# Altium integrated library ST Memory EEPROM Flash.IntLib: 1183 symbols (part 8 of 23)
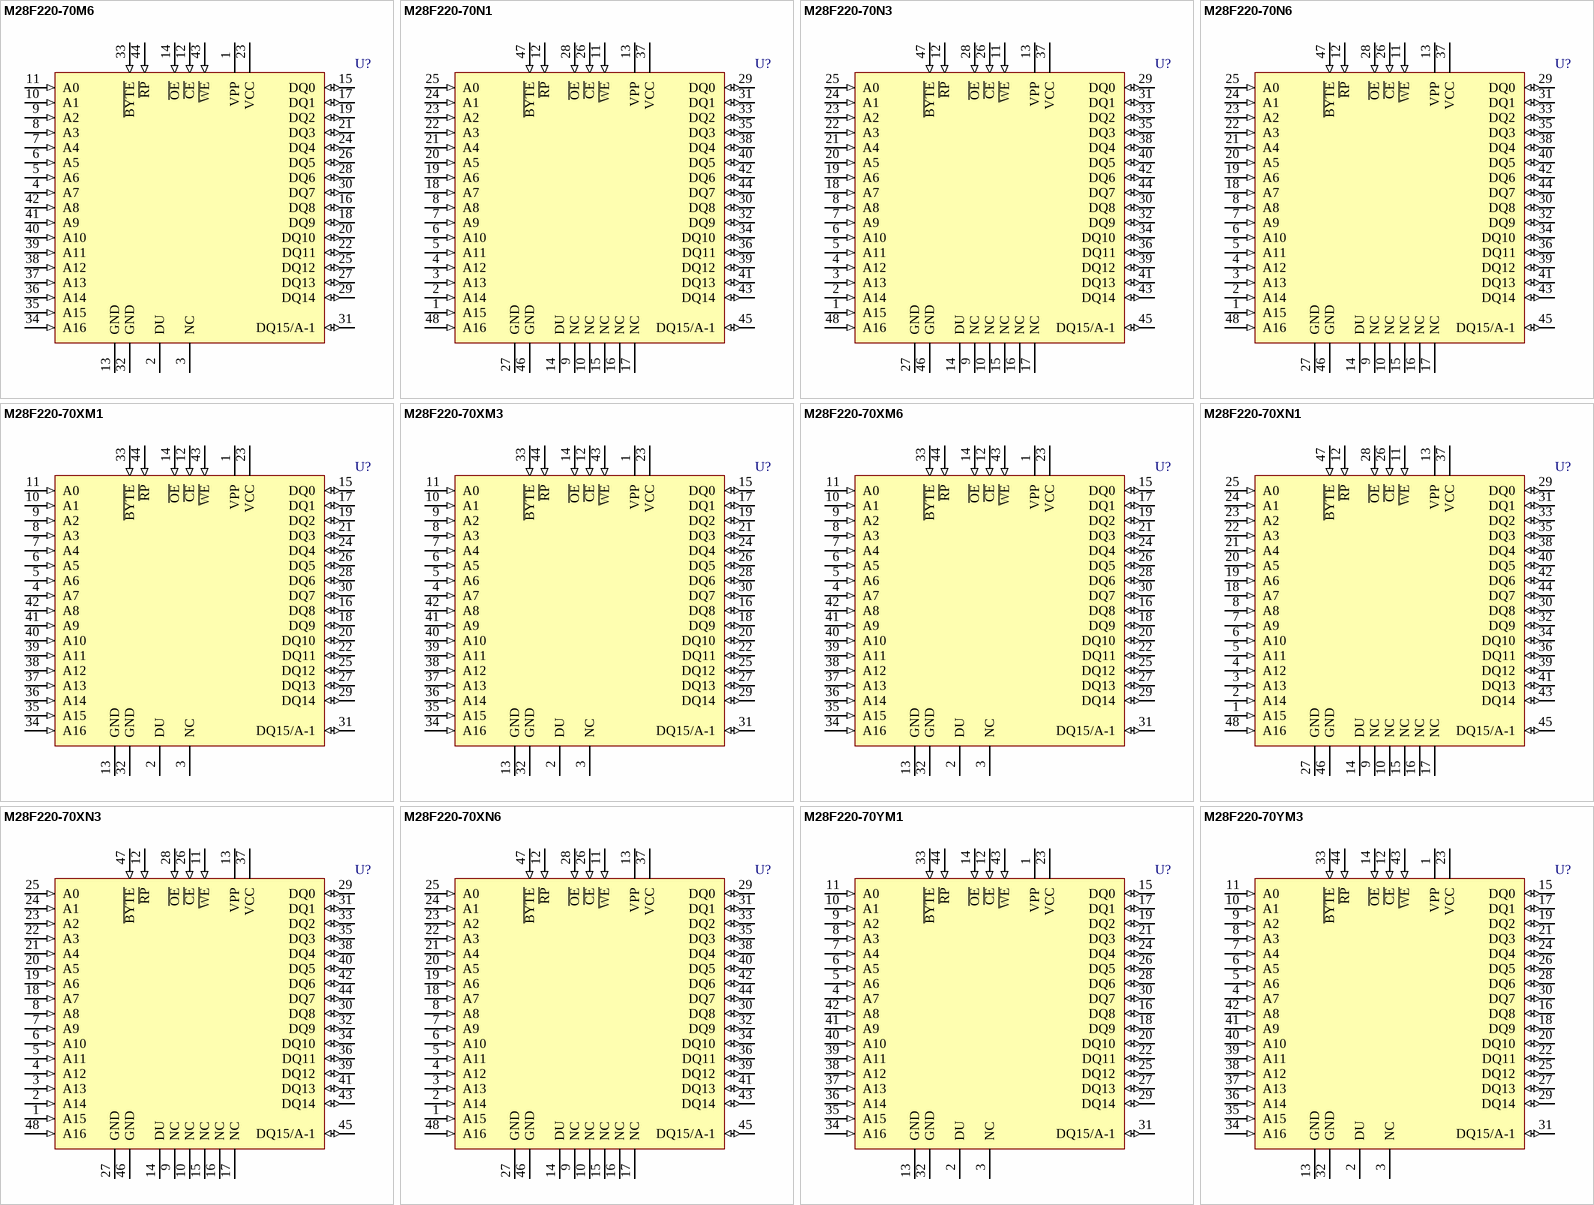
[diagram p88: symbols M28F220-70M6 to M28F220-70YM3]

## M28F220-70XN1
designator U?
2 Mbit (x8 or x16, Block Erase) Flash Memory; Note: Do Not Use pin number 14 (DU).; Published: 24-Aug-2001; LatestRevisionDate: 17-Jul-2002; LatestRevisionNote: Re-released for DXP Platform.; DatasheetDocument: Feb-1996; PackageDocument: Jul-1998; PackageReference: TSOP48; Publisher: Altium Limited; Code_JEDEC: MO-142-DD
footprint TSOP48 (Shrink Small Outline, Plastic, Thin; 48 Leads; Body Width 18.4 mm; Pitch 0.5 mm)
pins: 1 A15 (in), 2 A14 (in), 3 A13 (in), 4 A12 (in), 5 A11 (in), 6 A10 (in), 7 A9 (in), 8 A8 (in), 9 NC, 10 NC, 11 ~{WE} (in), 12 ~{RP} (in), 13 VPP (power), 14 DU, 15 NC, 16 NC, 17 NC, 18 A7 (in), 19 A6 (in), 20 A5 (in), 21 A4 (in), 22 A3 (in), 23 A2 (in), 24 A1 (in), 25 A0 (in), 26 ~{CE} (in), 27 GND (power), 28 ~{OE} (in), 29 DQ0 (io), 30 DQ8 (io), 31 DQ1 (io), 32 DQ9 (io), 33 DQ2 (io), 34 DQ10 (io), 35 DQ3 (io), 36 DQ11 (io), 37 VCC (power), 38 DQ4 (io), 39 DQ12 (io), 40 DQ5 (io), 41 DQ13 (io), 42 DQ6 (io), 43 DQ14 (io), 44 DQ7 (io), 45 DQ15/A-1 (io), 46 GND (power), 47 ~{BYTE} (in), 48 A16 (in)

## M28F220-70XN3
designator U?
2 Mbit (x8 or x16, Block Erase) Flash Memory; Note: Do Not Use pin number 14 (DU).; Published: 24-Aug-2001; LatestRevisionDate: 17-Jul-2002; LatestRevisionNote: Re-released for DXP Platform.; DatasheetDocument: Feb-1996; PackageDocument: Jul-1998; PackageReference: TSOP48; Publisher: Altium Limited; Code_JEDEC: MO-142-DD
footprint TSOP48 (Shrink Small Outline, Plastic, Thin; 48 Leads; Body Width 18.4 mm; Pitch 0.5 mm)
pins: 1 A15 (in), 2 A14 (in), 3 A13 (in), 4 A12 (in), 5 A11 (in), 6 A10 (in), 7 A9 (in), 8 A8 (in), 9 NC, 10 NC, 11 ~{WE} (in), 12 ~{RP} (in), 13 VPP (power), 14 DU, 15 NC, 16 NC, 17 NC, 18 A7 (in), 19 A6 (in), 20 A5 (in), 21 A4 (in), 22 A3 (in), 23 A2 (in), 24 A1 (in), 25 A0 (in), 26 ~{CE} (in), 27 GND (power), 28 ~{OE} (in), 29 DQ0 (io), 30 DQ8 (io), 31 DQ1 (io), 32 DQ9 (io), 33 DQ2 (io), 34 DQ10 (io), 35 DQ3 (io), 36 DQ11 (io), 37 VCC (power), 38 DQ4 (io), 39 DQ12 (io), 40 DQ5 (io), 41 DQ13 (io), 42 DQ6 (io), 43 DQ14 (io), 44 DQ7 (io), 45 DQ15/A-1 (io), 46 GND (power), 47 ~{BYTE} (in), 48 A16 (in)

## M28F220-70XN6
designator U?
2 Mbit (x8 or x16, Block Erase) Flash Memory; Note: Do Not Use pin number 14 (DU).; Published: 24-Aug-2001; LatestRevisionDate: 17-Jul-2002; LatestRevisionNote: Re-released for DXP Platform.; DatasheetDocument: Feb-1996; PackageDocument: Jul-1998; PackageReference: TSOP48; Publisher: Altium Limited; Code_JEDEC: MO-142-DD
footprint TSOP48 (Shrink Small Outline, Plastic, Thin; 48 Leads; Body Width 18.4 mm; Pitch 0.5 mm)
pins: 1 A15 (in), 2 A14 (in), 3 A13 (in), 4 A12 (in), 5 A11 (in), 6 A10 (in), 7 A9 (in), 8 A8 (in), 9 NC, 10 NC, 11 ~{WE} (in), 12 ~{RP} (in), 13 VPP (power), 14 DU, 15 NC, 16 NC, 17 NC, 18 A7 (in), 19 A6 (in), 20 A5 (in), 21 A4 (in), 22 A3 (in), 23 A2 (in), 24 A1 (in), 25 A0 (in), 26 ~{CE} (in), 27 GND (power), 28 ~{OE} (in), 29 DQ0 (io), 30 DQ8 (io), 31 DQ1 (io), 32 DQ9 (io), 33 DQ2 (io), 34 DQ10 (io), 35 DQ3 (io), 36 DQ11 (io), 37 VCC (power), 38 DQ4 (io), 39 DQ12 (io), 40 DQ5 (io), 41 DQ13 (io), 42 DQ6 (io), 43 DQ14 (io), 44 DQ7 (io), 45 DQ15/A-1 (io), 46 GND (power), 47 ~{BYTE} (in), 48 A16 (in)

## M28F220-70YM1
designator U?
2 Mbit (x8 or x16, Block Erase) Flash Memory; Note: Do Not Use pin number 2 (DU).; Published: 24-Aug-2001; LatestRevisionDate: 17-Jul-2002; LatestRevisionNote: Re-released for DXP Platform.; DatasheetDocument: Feb-1996; PackageReference: SO44; Publisher: Altium Limited
footprint SO44 (Small Outline, Plastic; 44 Leads; Body Width 13.3 mm; Pitch 1.27 mm)
pins: 1 VPP (power), 2 DU, 3 NC, 4 A7 (in), 5 A6 (in), 6 A5 (in), 7 A4 (in), 8 A3 (in), 9 A2 (in), 10 A1 (in), 11 A0 (in), 12 ~{CE} (in), 13 GND (power), 14 ~{OE} (in), 15 DQ0 (io), 16 DQ8 (io), 17 DQ1 (io), 18 DQ9 (io), 19 DQ2 (io), 20 DQ10 (io), 21 DQ3 (io), 22 DQ11 (io), 23 VCC (power), 24 DQ4 (io), 25 DQ12 (io), 26 DQ5 (io), 27 DQ13 (io), 28 DQ6 (io), 29 DQ14 (io), 30 DQ7 (io), 31 DQ15/A-1 (io), 32 GND (power), 33 ~{BYTE} (in), 34 A16 (in), 35 A15 (in), 36 A14 (in), 37 A13 (in), 38 A12 (in), 39 A11 (in), 40 A10 (in), 41 A9 (in), 42 A8 (in), 43 ~{WE} (in), 44 ~{RP} (in)

## M28F220-70YM3
designator U?
2 Mbit (x8 or x16, Block Erase) Flash Memory; Note: Do Not Use pin number 2 (DU).; Published: 24-Aug-2001; LatestRevisionDate: 17-Jul-2002; LatestRevisionNote: Re-released for DXP Platform.; DatasheetDocument: Feb-1996; PackageReference: SO44; Publisher: Altium Limited
footprint SO44 (Small Outline, Plastic; 44 Leads; Body Width 13.3 mm; Pitch 1.27 mm)
pins: 1 VPP (power), 2 DU, 3 NC, 4 A7 (in), 5 A6 (in), 6 A5 (in), 7 A4 (in), 8 A3 (in), 9 A2 (in), 10 A1 (in), 11 A0 (in), 12 ~{CE} (in), 13 GND (power), 14 ~{OE} (in), 15 DQ0 (io), 16 DQ8 (io), 17 DQ1 (io), 18 DQ9 (io), 19 DQ2 (io), 20 DQ10 (io), 21 DQ3 (io), 22 DQ11 (io), 23 VCC (power), 24 DQ4 (io), 25 DQ12 (io), 26 DQ5 (io), 27 DQ13 (io), 28 DQ6 (io), 29 DQ14 (io), 30 DQ7 (io), 31 DQ15/A-1 (io), 32 GND (power), 33 ~{BYTE} (in), 34 A16 (in), 35 A15 (in), 36 A14 (in), 37 A13 (in), 38 A12 (in), 39 A11 (in), 40 A10 (in), 41 A9 (in), 42 A8 (in), 43 ~{WE} (in), 44 ~{RP} (in)

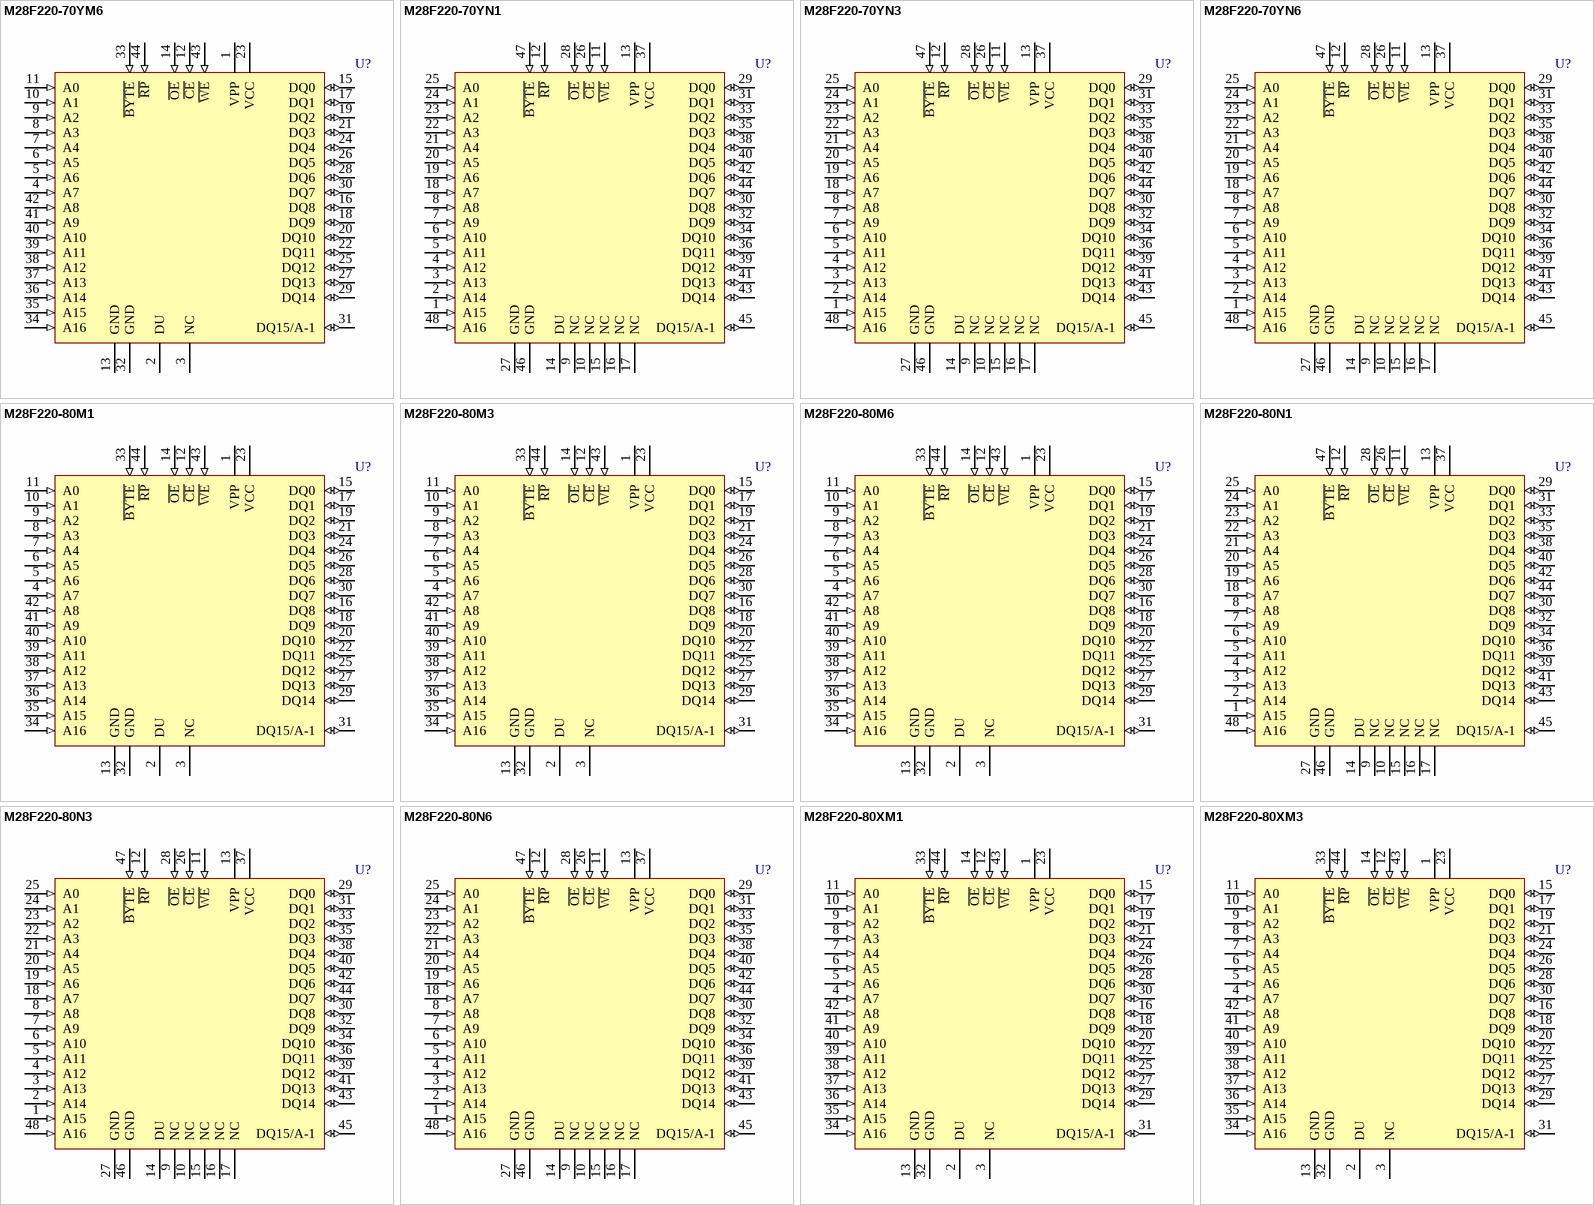
[diagram p23: symbols M28F220-70YM6 to M28F220-80XM3]

## M28F220-70YM6
designator U?
2 Mbit (x8 or x16, Block Erase) Flash Memory; Note: Do Not Use pin number 2 (DU).; Published: 24-Aug-2001; LatestRevisionDate: 17-Jul-2002; LatestRevisionNote: Re-released for DXP Platform.; DatasheetDocument: Feb-1996; PackageReference: SO44; Publisher: Altium Limited
footprint SO44 (Small Outline, Plastic; 44 Leads; Body Width 13.3 mm; Pitch 1.27 mm)
pins: 1 VPP (power), 2 DU, 3 NC, 4 A7 (in), 5 A6 (in), 6 A5 (in), 7 A4 (in), 8 A3 (in), 9 A2 (in), 10 A1 (in), 11 A0 (in), 12 ~{CE} (in), 13 GND (power), 14 ~{OE} (in), 15 DQ0 (io), 16 DQ8 (io), 17 DQ1 (io), 18 DQ9 (io), 19 DQ2 (io), 20 DQ10 (io), 21 DQ3 (io), 22 DQ11 (io), 23 VCC (power), 24 DQ4 (io), 25 DQ12 (io), 26 DQ5 (io), 27 DQ13 (io), 28 DQ6 (io), 29 DQ14 (io), 30 DQ7 (io), 31 DQ15/A-1 (io), 32 GND (power), 33 ~{BYTE} (in), 34 A16 (in), 35 A15 (in), 36 A14 (in), 37 A13 (in), 38 A12 (in), 39 A11 (in), 40 A10 (in), 41 A9 (in), 42 A8 (in), 43 ~{WE} (in), 44 ~{RP} (in)

## M28F220-70YN1
designator U?
2 Mbit (x8 or x16, Block Erase) Flash Memory; Note: Do Not Use pin number 14 (DU).; Published: 24-Aug-2001; LatestRevisionDate: 17-Jul-2002; LatestRevisionNote: Re-released for DXP Platform.; DatasheetDocument: Feb-1996; PackageDocument: Jul-1998; PackageReference: TSOP48; Publisher: Altium Limited; Code_JEDEC: MO-142-DD
footprint TSOP48 (Shrink Small Outline, Plastic, Thin; 48 Leads; Body Width 18.4 mm; Pitch 0.5 mm)
pins: 1 A15 (in), 2 A14 (in), 3 A13 (in), 4 A12 (in), 5 A11 (in), 6 A10 (in), 7 A9 (in), 8 A8 (in), 9 NC, 10 NC, 11 ~{WE} (in), 12 ~{RP} (in), 13 VPP (power), 14 DU, 15 NC, 16 NC, 17 NC, 18 A7 (in), 19 A6 (in), 20 A5 (in), 21 A4 (in), 22 A3 (in), 23 A2 (in), 24 A1 (in), 25 A0 (in), 26 ~{CE} (in), 27 GND (power), 28 ~{OE} (in), 29 DQ0 (io), 30 DQ8 (io), 31 DQ1 (io), 32 DQ9 (io), 33 DQ2 (io), 34 DQ10 (io), 35 DQ3 (io), 36 DQ11 (io), 37 VCC (power), 38 DQ4 (io), 39 DQ12 (io), 40 DQ5 (io), 41 DQ13 (io), 42 DQ6 (io), 43 DQ14 (io), 44 DQ7 (io), 45 DQ15/A-1 (io), 46 GND (power), 47 ~{BYTE} (in), 48 A16 (in)

## M28F220-70YN3
designator U?
2 Mbit (x8 or x16, Block Erase) Flash Memory; Note: Do Not Use pin number 14 (DU).; Published: 24-Aug-2001; LatestRevisionDate: 17-Jul-2002; LatestRevisionNote: Re-released for DXP Platform.; DatasheetDocument: Feb-1996; PackageDocument: Jul-1998; PackageReference: TSOP48; Publisher: Altium Limited; Code_JEDEC: MO-142-DD
footprint TSOP48 (Shrink Small Outline, Plastic, Thin; 48 Leads; Body Width 18.4 mm; Pitch 0.5 mm)
pins: 1 A15 (in), 2 A14 (in), 3 A13 (in), 4 A12 (in), 5 A11 (in), 6 A10 (in), 7 A9 (in), 8 A8 (in), 9 NC, 10 NC, 11 ~{WE} (in), 12 ~{RP} (in), 13 VPP (power), 14 DU, 15 NC, 16 NC, 17 NC, 18 A7 (in), 19 A6 (in), 20 A5 (in), 21 A4 (in), 22 A3 (in), 23 A2 (in), 24 A1 (in), 25 A0 (in), 26 ~{CE} (in), 27 GND (power), 28 ~{OE} (in), 29 DQ0 (io), 30 DQ8 (io), 31 DQ1 (io), 32 DQ9 (io), 33 DQ2 (io), 34 DQ10 (io), 35 DQ3 (io), 36 DQ11 (io), 37 VCC (power), 38 DQ4 (io), 39 DQ12 (io), 40 DQ5 (io), 41 DQ13 (io), 42 DQ6 (io), 43 DQ14 (io), 44 DQ7 (io), 45 DQ15/A-1 (io), 46 GND (power), 47 ~{BYTE} (in), 48 A16 (in)

## M28F220-70YN6
designator U?
2 Mbit (x8 or x16, Block Erase) Flash Memory; Note: Do Not Use pin number 14 (DU).; Published: 24-Aug-2001; LatestRevisionDate: 17-Jul-2002; LatestRevisionNote: Re-released for DXP Platform.; DatasheetDocument: Feb-1996; PackageDocument: Jul-1998; PackageReference: TSOP48; Publisher: Altium Limited; Code_JEDEC: MO-142-DD
footprint TSOP48 (Shrink Small Outline, Plastic, Thin; 48 Leads; Body Width 18.4 mm; Pitch 0.5 mm)
pins: 1 A15 (in), 2 A14 (in), 3 A13 (in), 4 A12 (in), 5 A11 (in), 6 A10 (in), 7 A9 (in), 8 A8 (in), 9 NC, 10 NC, 11 ~{WE} (in), 12 ~{RP} (in), 13 VPP (power), 14 DU, 15 NC, 16 NC, 17 NC, 18 A7 (in), 19 A6 (in), 20 A5 (in), 21 A4 (in), 22 A3 (in), 23 A2 (in), 24 A1 (in), 25 A0 (in), 26 ~{CE} (in), 27 GND (power), 28 ~{OE} (in), 29 DQ0 (io), 30 DQ8 (io), 31 DQ1 (io), 32 DQ9 (io), 33 DQ2 (io), 34 DQ10 (io), 35 DQ3 (io), 36 DQ11 (io), 37 VCC (power), 38 DQ4 (io), 39 DQ12 (io), 40 DQ5 (io), 41 DQ13 (io), 42 DQ6 (io), 43 DQ14 (io), 44 DQ7 (io), 45 DQ15/A-1 (io), 46 GND (power), 47 ~{BYTE} (in), 48 A16 (in)

## M28F220-80M1
designator U?
2 Mbit (x8 or x16, Block Erase) Flash Memory; Note: Do Not Use pin number 2 (DU).; Published: 24-Aug-2001; LatestRevisionDate: 17-Jul-2002; LatestRevisionNote: Re-released for DXP Platform.; DatasheetDocument: Feb-1996; PackageReference: SO44; Publisher: Altium Limited
footprint SO44 (Small Outline, Plastic; 44 Leads; Body Width 13.3 mm; Pitch 1.27 mm)
pins: 1 VPP (power), 2 DU, 3 NC, 4 A7 (in), 5 A6 (in), 6 A5 (in), 7 A4 (in), 8 A3 (in), 9 A2 (in), 10 A1 (in), 11 A0 (in), 12 ~{CE} (in), 13 GND (power), 14 ~{OE} (in), 15 DQ0 (io), 16 DQ8 (io), 17 DQ1 (io), 18 DQ9 (io), 19 DQ2 (io), 20 DQ10 (io), 21 DQ3 (io), 22 DQ11 (io), 23 VCC (power), 24 DQ4 (io), 25 DQ12 (io), 26 DQ5 (io), 27 DQ13 (io), 28 DQ6 (io), 29 DQ14 (io), 30 DQ7 (io), 31 DQ15/A-1 (io), 32 GND (power), 33 ~{BYTE} (in), 34 A16 (in), 35 A15 (in), 36 A14 (in), 37 A13 (in), 38 A12 (in), 39 A11 (in), 40 A10 (in), 41 A9 (in), 42 A8 (in), 43 ~{WE} (in), 44 ~{RP} (in)

## M28F220-80M3
designator U?
2 Mbit (x8 or x16, Block Erase) Flash Memory; Note: Do Not Use pin number 2 (DU).; Published: 24-Aug-2001; LatestRevisionDate: 17-Jul-2002; LatestRevisionNote: Re-released for DXP Platform.; DatasheetDocument: Feb-1996; PackageReference: SO44; Publisher: Altium Limited
footprint SO44 (Small Outline, Plastic; 44 Leads; Body Width 13.3 mm; Pitch 1.27 mm)
pins: 1 VPP (power), 2 DU, 3 NC, 4 A7 (in), 5 A6 (in), 6 A5 (in), 7 A4 (in), 8 A3 (in), 9 A2 (in), 10 A1 (in), 11 A0 (in), 12 ~{CE} (in), 13 GND (power), 14 ~{OE} (in), 15 DQ0 (io), 16 DQ8 (io), 17 DQ1 (io), 18 DQ9 (io), 19 DQ2 (io), 20 DQ10 (io), 21 DQ3 (io), 22 DQ11 (io), 23 VCC (power), 24 DQ4 (io), 25 DQ12 (io), 26 DQ5 (io), 27 DQ13 (io), 28 DQ6 (io), 29 DQ14 (io), 30 DQ7 (io), 31 DQ15/A-1 (io), 32 GND (power), 33 ~{BYTE} (in), 34 A16 (in), 35 A15 (in), 36 A14 (in), 37 A13 (in), 38 A12 (in), 39 A11 (in), 40 A10 (in), 41 A9 (in), 42 A8 (in), 43 ~{WE} (in), 44 ~{RP} (in)

## M28F220-80M6
designator U?
2 Mbit (x8 or x16, Block Erase) Flash Memory; Note: Do Not Use pin number 2 (DU).; Published: 24-Aug-2001; LatestRevisionDate: 17-Jul-2002; LatestRevisionNote: Re-released for DXP Platform.; DatasheetDocument: Feb-1996; PackageReference: SO44; Publisher: Altium Limited
footprint SO44 (Small Outline, Plastic; 44 Leads; Body Width 13.3 mm; Pitch 1.27 mm)
pins: 1 VPP (power), 2 DU, 3 NC, 4 A7 (in), 5 A6 (in), 6 A5 (in), 7 A4 (in), 8 A3 (in), 9 A2 (in), 10 A1 (in), 11 A0 (in), 12 ~{CE} (in), 13 GND (power), 14 ~{OE} (in), 15 DQ0 (io), 16 DQ8 (io), 17 DQ1 (io), 18 DQ9 (io), 19 DQ2 (io), 20 DQ10 (io), 21 DQ3 (io), 22 DQ11 (io), 23 VCC (power), 24 DQ4 (io), 25 DQ12 (io), 26 DQ5 (io), 27 DQ13 (io), 28 DQ6 (io), 29 DQ14 (io), 30 DQ7 (io), 31 DQ15/A-1 (io), 32 GND (power), 33 ~{BYTE} (in), 34 A16 (in), 35 A15 (in), 36 A14 (in), 37 A13 (in), 38 A12 (in), 39 A11 (in), 40 A10 (in), 41 A9 (in), 42 A8 (in), 43 ~{WE} (in), 44 ~{RP} (in)

## M28F220-80N1
designator U?
2 Mbit (x8 or x16, Block Erase) Flash Memory; Note: Do Not Use pin number 14 (DU).; Published: 24-Aug-2001; LatestRevisionDate: 17-Jul-2002; LatestRevisionNote: Re-released for DXP Platform.; DatasheetDocument: Feb-1996; PackageDocument: Jul-1998; PackageReference: TSOP48; Publisher: Altium Limited; Code_JEDEC: MO-142-DD
footprint TSOP48 (Shrink Small Outline, Plastic, Thin; 48 Leads; Body Width 18.4 mm; Pitch 0.5 mm)
pins: 1 A15 (in), 2 A14 (in), 3 A13 (in), 4 A12 (in), 5 A11 (in), 6 A10 (in), 7 A9 (in), 8 A8 (in), 9 NC, 10 NC, 11 ~{WE} (in), 12 ~{RP} (in), 13 VPP (power), 14 DU, 15 NC, 16 NC, 17 NC, 18 A7 (in), 19 A6 (in), 20 A5 (in), 21 A4 (in), 22 A3 (in), 23 A2 (in), 24 A1 (in), 25 A0 (in), 26 ~{CE} (in), 27 GND (power), 28 ~{OE} (in), 29 DQ0 (io), 30 DQ8 (io), 31 DQ1 (io), 32 DQ9 (io), 33 DQ2 (io), 34 DQ10 (io), 35 DQ3 (io), 36 DQ11 (io), 37 VCC (power), 38 DQ4 (io), 39 DQ12 (io), 40 DQ5 (io), 41 DQ13 (io), 42 DQ6 (io), 43 DQ14 (io), 44 DQ7 (io), 45 DQ15/A-1 (io), 46 GND (power), 47 ~{BYTE} (in), 48 A16 (in)

## M28F220-80N3
designator U?
2 Mbit (x8 or x16, Block Erase) Flash Memory; Note: Do Not Use pin number 14 (DU).; Published: 24-Aug-2001; LatestRevisionDate: 17-Jul-2002; LatestRevisionNote: Re-released for DXP Platform.; DatasheetDocument: Feb-1996; PackageDocument: Jul-1998; PackageReference: TSOP48; Publisher: Altium Limited; Code_JEDEC: MO-142-DD
footprint TSOP48 (Shrink Small Outline, Plastic, Thin; 48 Leads; Body Width 18.4 mm; Pitch 0.5 mm)
pins: 1 A15 (in), 2 A14 (in), 3 A13 (in), 4 A12 (in), 5 A11 (in), 6 A10 (in), 7 A9 (in), 8 A8 (in), 9 NC, 10 NC, 11 ~{WE} (in), 12 ~{RP} (in), 13 VPP (power), 14 DU, 15 NC, 16 NC, 17 NC, 18 A7 (in), 19 A6 (in), 20 A5 (in), 21 A4 (in), 22 A3 (in), 23 A2 (in), 24 A1 (in), 25 A0 (in), 26 ~{CE} (in), 27 GND (power), 28 ~{OE} (in), 29 DQ0 (io), 30 DQ8 (io), 31 DQ1 (io), 32 DQ9 (io), 33 DQ2 (io), 34 DQ10 (io), 35 DQ3 (io), 36 DQ11 (io), 37 VCC (power), 38 DQ4 (io), 39 DQ12 (io), 40 DQ5 (io), 41 DQ13 (io), 42 DQ6 (io), 43 DQ14 (io), 44 DQ7 (io), 45 DQ15/A-1 (io), 46 GND (power), 47 ~{BYTE} (in), 48 A16 (in)

## M28F220-80N6
designator U?
2 Mbit (x8 or x16, Block Erase) Flash Memory; Note: Do Not Use pin number 14 (DU).; Published: 24-Aug-2001; LatestRevisionDate: 17-Jul-2002; LatestRevisionNote: Re-released for DXP Platform.; DatasheetDocument: Feb-1996; PackageDocument: Jul-1998; PackageReference: TSOP48; Publisher: Altium Limited; Code_JEDEC: MO-142-DD
footprint TSOP48 (Shrink Small Outline, Plastic, Thin; 48 Leads; Body Width 18.4 mm; Pitch 0.5 mm)
pins: 1 A15 (in), 2 A14 (in), 3 A13 (in), 4 A12 (in), 5 A11 (in), 6 A10 (in), 7 A9 (in), 8 A8 (in), 9 NC, 10 NC, 11 ~{WE} (in), 12 ~{RP} (in), 13 VPP (power), 14 DU, 15 NC, 16 NC, 17 NC, 18 A7 (in), 19 A6 (in), 20 A5 (in), 21 A4 (in), 22 A3 (in), 23 A2 (in), 24 A1 (in), 25 A0 (in), 26 ~{CE} (in), 27 GND (power), 28 ~{OE} (in), 29 DQ0 (io), 30 DQ8 (io), 31 DQ1 (io), 32 DQ9 (io), 33 DQ2 (io), 34 DQ10 (io), 35 DQ3 (io), 36 DQ11 (io), 37 VCC (power), 38 DQ4 (io), 39 DQ12 (io), 40 DQ5 (io), 41 DQ13 (io), 42 DQ6 (io), 43 DQ14 (io), 44 DQ7 (io), 45 DQ15/A-1 (io), 46 GND (power), 47 ~{BYTE} (in), 48 A16 (in)

## M28F220-80XM1
designator U?
2 Mbit (x8 or x16, Block Erase) Flash Memory; Note: Do Not Use pin number 2 (DU).; Published: 24-Aug-2001; LatestRevisionDate: 17-Jul-2002; LatestRevisionNote: Re-released for DXP Platform.; DatasheetDocument: Feb-1996; PackageReference: SO44; Publisher: Altium Limited
footprint SO44 (Small Outline, Plastic; 44 Leads; Body Width 13.3 mm; Pitch 1.27 mm)
pins: 1 VPP (power), 2 DU, 3 NC, 4 A7 (in), 5 A6 (in), 6 A5 (in), 7 A4 (in), 8 A3 (in), 9 A2 (in), 10 A1 (in), 11 A0 (in), 12 ~{CE} (in), 13 GND (power), 14 ~{OE} (in), 15 DQ0 (io), 16 DQ8 (io), 17 DQ1 (io), 18 DQ9 (io), 19 DQ2 (io), 20 DQ10 (io), 21 DQ3 (io), 22 DQ11 (io), 23 VCC (power), 24 DQ4 (io), 25 DQ12 (io), 26 DQ5 (io), 27 DQ13 (io), 28 DQ6 (io), 29 DQ14 (io), 30 DQ7 (io), 31 DQ15/A-1 (io), 32 GND (power), 33 ~{BYTE} (in), 34 A16 (in), 35 A15 (in), 36 A14 (in), 37 A13 (in), 38 A12 (in), 39 A11 (in), 40 A10 (in), 41 A9 (in), 42 A8 (in), 43 ~{WE} (in), 44 ~{RP} (in)

## M28F220-80XM3
designator U?
2 Mbit (x8 or x16, Block Erase) Flash Memory; Note: Do Not Use pin number 2 (DU).; Published: 24-Aug-2001; LatestRevisionDate: 17-Jul-2002; LatestRevisionNote: Re-released for DXP Platform.; DatasheetDocument: Feb-1996; PackageReference: SO44; Publisher: Altium Limited
footprint SO44 (Small Outline, Plastic; 44 Leads; Body Width 13.3 mm; Pitch 1.27 mm)
pins: 1 VPP (power), 2 DU, 3 NC, 4 A7 (in), 5 A6 (in), 6 A5 (in), 7 A4 (in), 8 A3 (in), 9 A2 (in), 10 A1 (in), 11 A0 (in), 12 ~{CE} (in), 13 GND (power), 14 ~{OE} (in), 15 DQ0 (io), 16 DQ8 (io), 17 DQ1 (io), 18 DQ9 (io), 19 DQ2 (io), 20 DQ10 (io), 21 DQ3 (io), 22 DQ11 (io), 23 VCC (power), 24 DQ4 (io), 25 DQ12 (io), 26 DQ5 (io), 27 DQ13 (io), 28 DQ6 (io), 29 DQ14 (io), 30 DQ7 (io), 31 DQ15/A-1 (io), 32 GND (power), 33 ~{BYTE} (in), 34 A16 (in), 35 A15 (in), 36 A14 (in), 37 A13 (in), 38 A12 (in), 39 A11 (in), 40 A10 (in), 41 A9 (in), 42 A8 (in), 43 ~{WE} (in), 44 ~{RP} (in)

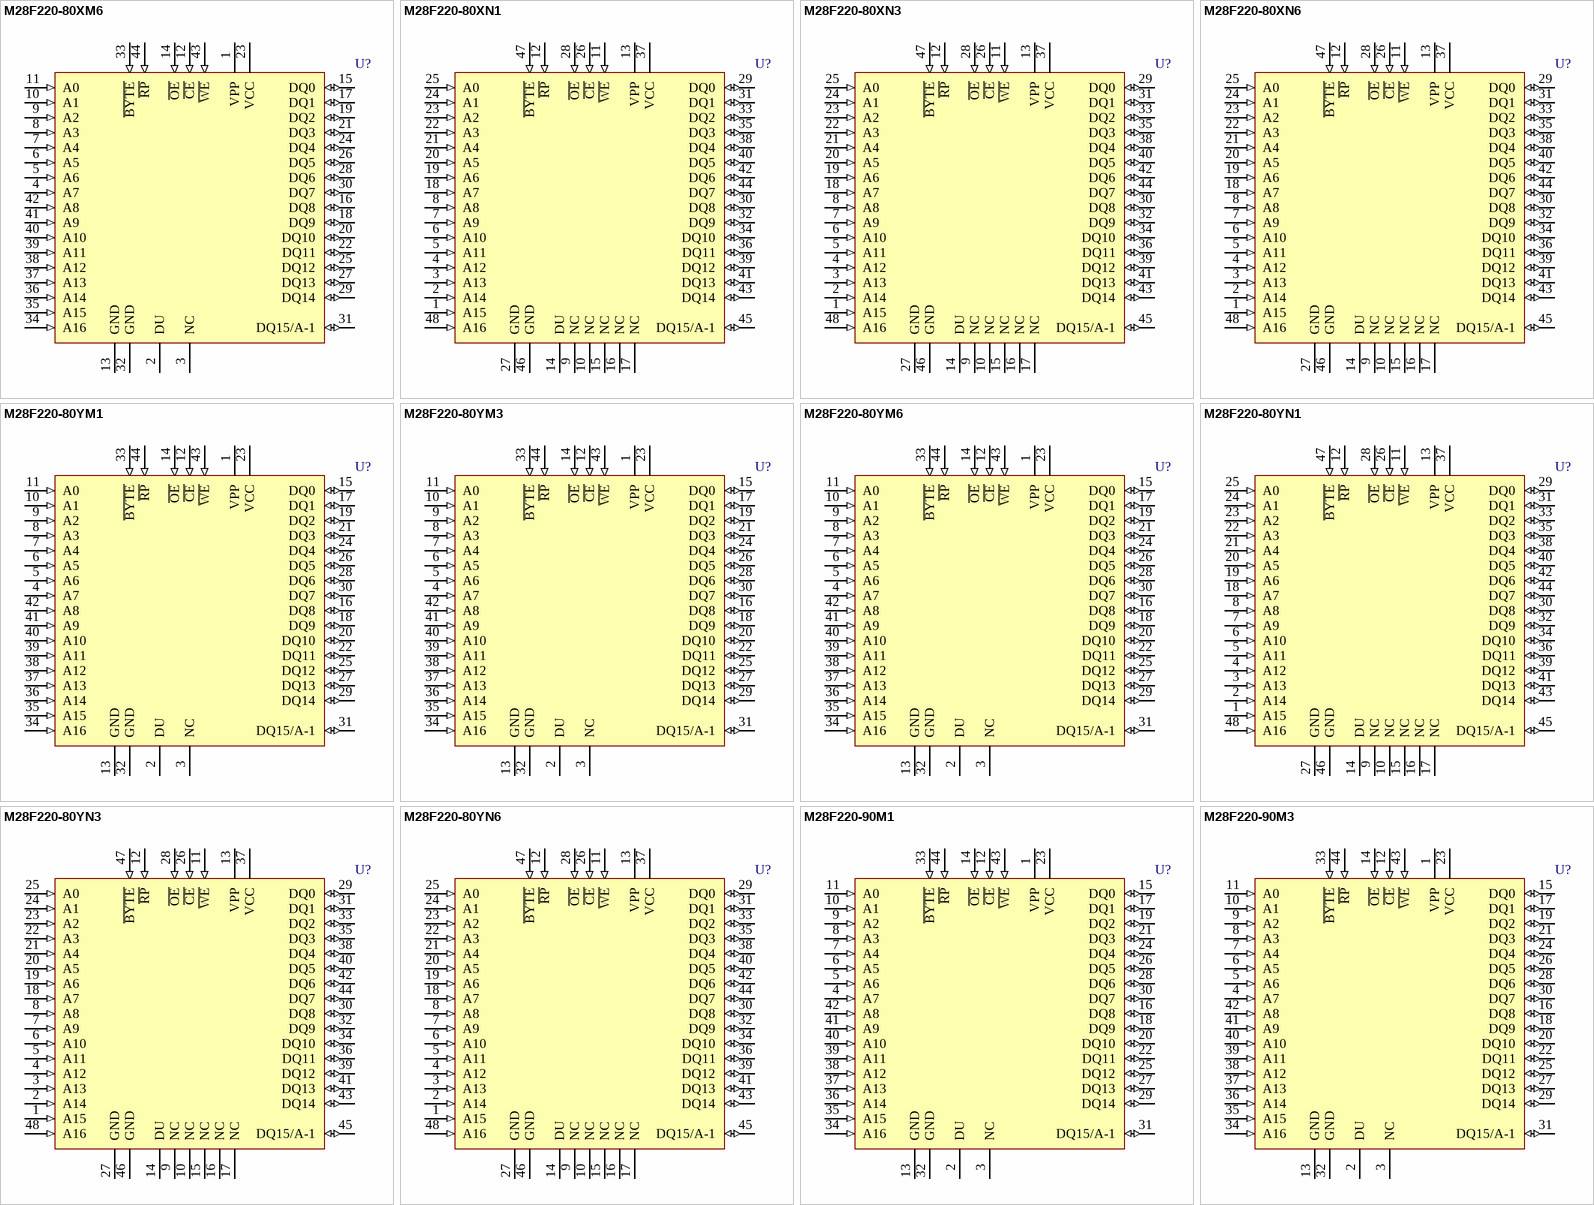
[diagram p24: symbols M28F220-80XM6 to M28F220-90M3]

## M28F220-80XM6
designator U?
2 Mbit (x8 or x16, Block Erase) Flash Memory; Note: Do Not Use pin number 2 (DU).; Published: 24-Aug-2001; LatestRevisionDate: 17-Jul-2002; LatestRevisionNote: Re-released for DXP Platform.; DatasheetDocument: Feb-1996; PackageReference: SO44; Publisher: Altium Limited
footprint SO44 (Small Outline, Plastic; 44 Leads; Body Width 13.3 mm; Pitch 1.27 mm)
pins: 1 VPP (power), 2 DU, 3 NC, 4 A7 (in), 5 A6 (in), 6 A5 (in), 7 A4 (in), 8 A3 (in), 9 A2 (in), 10 A1 (in), 11 A0 (in), 12 ~{CE} (in), 13 GND (power), 14 ~{OE} (in), 15 DQ0 (io), 16 DQ8 (io), 17 DQ1 (io), 18 DQ9 (io), 19 DQ2 (io), 20 DQ10 (io), 21 DQ3 (io), 22 DQ11 (io), 23 VCC (power), 24 DQ4 (io), 25 DQ12 (io), 26 DQ5 (io), 27 DQ13 (io), 28 DQ6 (io), 29 DQ14 (io), 30 DQ7 (io), 31 DQ15/A-1 (io), 32 GND (power), 33 ~{BYTE} (in), 34 A16 (in), 35 A15 (in), 36 A14 (in), 37 A13 (in), 38 A12 (in), 39 A11 (in), 40 A10 (in), 41 A9 (in), 42 A8 (in), 43 ~{WE} (in), 44 ~{RP} (in)

## M28F220-80XN1
designator U?
2 Mbit (x8 or x16, Block Erase) Flash Memory; Note: Do Not Use pin number 14 (DU).; Published: 24-Aug-2001; LatestRevisionDate: 17-Jul-2002; LatestRevisionNote: Re-released for DXP Platform.; DatasheetDocument: Feb-1996; PackageDocument: Jul-1998; PackageReference: TSOP48; Publisher: Altium Limited; Code_JEDEC: MO-142-DD
footprint TSOP48 (Shrink Small Outline, Plastic, Thin; 48 Leads; Body Width 18.4 mm; Pitch 0.5 mm)
pins: 1 A15 (in), 2 A14 (in), 3 A13 (in), 4 A12 (in), 5 A11 (in), 6 A10 (in), 7 A9 (in), 8 A8 (in), 9 NC, 10 NC, 11 ~{WE} (in), 12 ~{RP} (in), 13 VPP (power), 14 DU, 15 NC, 16 NC, 17 NC, 18 A7 (in), 19 A6 (in), 20 A5 (in), 21 A4 (in), 22 A3 (in), 23 A2 (in), 24 A1 (in), 25 A0 (in), 26 ~{CE} (in), 27 GND (power), 28 ~{OE} (in), 29 DQ0 (io), 30 DQ8 (io), 31 DQ1 (io), 32 DQ9 (io), 33 DQ2 (io), 34 DQ10 (io), 35 DQ3 (io), 36 DQ11 (io), 37 VCC (power), 38 DQ4 (io), 39 DQ12 (io), 40 DQ5 (io), 41 DQ13 (io), 42 DQ6 (io), 43 DQ14 (io), 44 DQ7 (io), 45 DQ15/A-1 (io), 46 GND (power), 47 ~{BYTE} (in), 48 A16 (in)

## M28F220-80XN3
designator U?
2 Mbit (x8 or x16, Block Erase) Flash Memory; Note: Do Not Use pin number 14 (DU).; Published: 24-Aug-2001; LatestRevisionDate: 17-Jul-2002; LatestRevisionNote: Re-released for DXP Platform.; DatasheetDocument: Feb-1996; PackageDocument: Jul-1998; PackageReference: TSOP48; Publisher: Altium Limited; Code_JEDEC: MO-142-DD
footprint TSOP48 (Shrink Small Outline, Plastic, Thin; 48 Leads; Body Width 18.4 mm; Pitch 0.5 mm)
pins: 1 A15 (in), 2 A14 (in), 3 A13 (in), 4 A12 (in), 5 A11 (in), 6 A10 (in), 7 A9 (in), 8 A8 (in), 9 NC, 10 NC, 11 ~{WE} (in), 12 ~{RP} (in), 13 VPP (power), 14 DU, 15 NC, 16 NC, 17 NC, 18 A7 (in), 19 A6 (in), 20 A5 (in), 21 A4 (in), 22 A3 (in), 23 A2 (in), 24 A1 (in), 25 A0 (in), 26 ~{CE} (in), 27 GND (power), 28 ~{OE} (in), 29 DQ0 (io), 30 DQ8 (io), 31 DQ1 (io), 32 DQ9 (io), 33 DQ2 (io), 34 DQ10 (io), 35 DQ3 (io), 36 DQ11 (io), 37 VCC (power), 38 DQ4 (io), 39 DQ12 (io), 40 DQ5 (io), 41 DQ13 (io), 42 DQ6 (io), 43 DQ14 (io), 44 DQ7 (io), 45 DQ15/A-1 (io), 46 GND (power), 47 ~{BYTE} (in), 48 A16 (in)

## M28F220-80XN6
designator U?
2 Mbit (x8 or x16, Block Erase) Flash Memory; Note: Do Not Use pin number 14 (DU).; Published: 24-Aug-2001; LatestRevisionDate: 17-Jul-2002; LatestRevisionNote: Re-released for DXP Platform.; DatasheetDocument: Feb-1996; PackageDocument: Jul-1998; PackageReference: TSOP48; Publisher: Altium Limited; Code_JEDEC: MO-142-DD
footprint TSOP48 (Shrink Small Outline, Plastic, Thin; 48 Leads; Body Width 18.4 mm; Pitch 0.5 mm)
pins: 1 A15 (in), 2 A14 (in), 3 A13 (in), 4 A12 (in), 5 A11 (in), 6 A10 (in), 7 A9 (in), 8 A8 (in), 9 NC, 10 NC, 11 ~{WE} (in), 12 ~{RP} (in), 13 VPP (power), 14 DU, 15 NC, 16 NC, 17 NC, 18 A7 (in), 19 A6 (in), 20 A5 (in), 21 A4 (in), 22 A3 (in), 23 A2 (in), 24 A1 (in), 25 A0 (in), 26 ~{CE} (in), 27 GND (power), 28 ~{OE} (in), 29 DQ0 (io), 30 DQ8 (io), 31 DQ1 (io), 32 DQ9 (io), 33 DQ2 (io), 34 DQ10 (io), 35 DQ3 (io), 36 DQ11 (io), 37 VCC (power), 38 DQ4 (io), 39 DQ12 (io), 40 DQ5 (io), 41 DQ13 (io), 42 DQ6 (io), 43 DQ14 (io), 44 DQ7 (io), 45 DQ15/A-1 (io), 46 GND (power), 47 ~{BYTE} (in), 48 A16 (in)

## M28F220-80YM1
designator U?
2 Mbit (x8 or x16, Block Erase) Flash Memory; Note: Do Not Use pin number 2 (DU).; Published: 24-Aug-2001; LatestRevisionDate: 17-Jul-2002; LatestRevisionNote: Re-released for DXP Platform.; DatasheetDocument: Feb-1996; PackageReference: SO44; Publisher: Altium Limited
footprint SO44 (Small Outline, Plastic; 44 Leads; Body Width 13.3 mm; Pitch 1.27 mm)
pins: 1 VPP (power), 2 DU, 3 NC, 4 A7 (in), 5 A6 (in), 6 A5 (in), 7 A4 (in), 8 A3 (in), 9 A2 (in), 10 A1 (in), 11 A0 (in), 12 ~{CE} (in), 13 GND (power), 14 ~{OE} (in), 15 DQ0 (io), 16 DQ8 (io), 17 DQ1 (io), 18 DQ9 (io), 19 DQ2 (io), 20 DQ10 (io), 21 DQ3 (io), 22 DQ11 (io), 23 VCC (power), 24 DQ4 (io), 25 DQ12 (io), 26 DQ5 (io), 27 DQ13 (io), 28 DQ6 (io), 29 DQ14 (io), 30 DQ7 (io), 31 DQ15/A-1 (io), 32 GND (power), 33 ~{BYTE} (in), 34 A16 (in), 35 A15 (in), 36 A14 (in), 37 A13 (in), 38 A12 (in), 39 A11 (in), 40 A10 (in), 41 A9 (in), 42 A8 (in), 43 ~{WE} (in), 44 ~{RP} (in)

## M28F220-80YM3
designator U?
2 Mbit (x8 or x16, Block Erase) Flash Memory; Note: Do Not Use pin number 2 (DU).; Published: 24-Aug-2001; LatestRevisionDate: 17-Jul-2002; LatestRevisionNote: Re-released for DXP Platform.; DatasheetDocument: Feb-1996; PackageReference: SO44; Publisher: Altium Limited
footprint SO44 (Small Outline, Plastic; 44 Leads; Body Width 13.3 mm; Pitch 1.27 mm)
pins: 1 VPP (power), 2 DU, 3 NC, 4 A7 (in), 5 A6 (in), 6 A5 (in), 7 A4 (in), 8 A3 (in), 9 A2 (in), 10 A1 (in), 11 A0 (in), 12 ~{CE} (in), 13 GND (power), 14 ~{OE} (in), 15 DQ0 (io), 16 DQ8 (io), 17 DQ1 (io), 18 DQ9 (io), 19 DQ2 (io), 20 DQ10 (io), 21 DQ3 (io), 22 DQ11 (io), 23 VCC (power), 24 DQ4 (io), 25 DQ12 (io), 26 DQ5 (io), 27 DQ13 (io), 28 DQ6 (io), 29 DQ14 (io), 30 DQ7 (io), 31 DQ15/A-1 (io), 32 GND (power), 33 ~{BYTE} (in), 34 A16 (in), 35 A15 (in), 36 A14 (in), 37 A13 (in), 38 A12 (in), 39 A11 (in), 40 A10 (in), 41 A9 (in), 42 A8 (in), 43 ~{WE} (in), 44 ~{RP} (in)

## M28F220-80YM6
designator U?
2 Mbit (x8 or x16, Block Erase) Flash Memory; Note: Do Not Use pin number 2 (DU).; Published: 24-Aug-2001; LatestRevisionDate: 17-Jul-2002; LatestRevisionNote: Re-released for DXP Platform.; DatasheetDocument: Feb-1996; PackageReference: SO44; Publisher: Altium Limited
footprint SO44 (Small Outline, Plastic; 44 Leads; Body Width 13.3 mm; Pitch 1.27 mm)
pins: 1 VPP (power), 2 DU, 3 NC, 4 A7 (in), 5 A6 (in), 6 A5 (in), 7 A4 (in), 8 A3 (in), 9 A2 (in), 10 A1 (in), 11 A0 (in), 12 ~{CE} (in), 13 GND (power), 14 ~{OE} (in), 15 DQ0 (io), 16 DQ8 (io), 17 DQ1 (io), 18 DQ9 (io), 19 DQ2 (io), 20 DQ10 (io), 21 DQ3 (io), 22 DQ11 (io), 23 VCC (power), 24 DQ4 (io), 25 DQ12 (io), 26 DQ5 (io), 27 DQ13 (io), 28 DQ6 (io), 29 DQ14 (io), 30 DQ7 (io), 31 DQ15/A-1 (io), 32 GND (power), 33 ~{BYTE} (in), 34 A16 (in), 35 A15 (in), 36 A14 (in), 37 A13 (in), 38 A12 (in), 39 A11 (in), 40 A10 (in), 41 A9 (in), 42 A8 (in), 43 ~{WE} (in), 44 ~{RP} (in)

## M28F220-80YN1
designator U?
2 Mbit (x8 or x16, Block Erase) Flash Memory; Note: Do Not Use pin number 14 (DU).; Published: 24-Aug-2001; LatestRevisionDate: 17-Jul-2002; LatestRevisionNote: Re-released for DXP Platform.; DatasheetDocument: Feb-1996; PackageDocument: Jul-1998; PackageReference: TSOP48; Publisher: Altium Limited; Code_JEDEC: MO-142-DD
footprint TSOP48 (Shrink Small Outline, Plastic, Thin; 48 Leads; Body Width 18.4 mm; Pitch 0.5 mm)
pins: 1 A15 (in), 2 A14 (in), 3 A13 (in), 4 A12 (in), 5 A11 (in), 6 A10 (in), 7 A9 (in), 8 A8 (in), 9 NC, 10 NC, 11 ~{WE} (in), 12 ~{RP} (in), 13 VPP (power), 14 DU, 15 NC, 16 NC, 17 NC, 18 A7 (in), 19 A6 (in), 20 A5 (in), 21 A4 (in), 22 A3 (in), 23 A2 (in), 24 A1 (in), 25 A0 (in), 26 ~{CE} (in), 27 GND (power), 28 ~{OE} (in), 29 DQ0 (io), 30 DQ8 (io), 31 DQ1 (io), 32 DQ9 (io), 33 DQ2 (io), 34 DQ10 (io), 35 DQ3 (io), 36 DQ11 (io), 37 VCC (power), 38 DQ4 (io), 39 DQ12 (io), 40 DQ5 (io), 41 DQ13 (io), 42 DQ6 (io), 43 DQ14 (io), 44 DQ7 (io), 45 DQ15/A-1 (io), 46 GND (power), 47 ~{BYTE} (in), 48 A16 (in)

## M28F220-80YN3
designator U?
2 Mbit (x8 or x16, Block Erase) Flash Memory; Note: Do Not Use pin number 14 (DU).; Published: 24-Aug-2001; LatestRevisionDate: 17-Jul-2002; LatestRevisionNote: Re-released for DXP Platform.; DatasheetDocument: Feb-1996; PackageDocument: Jul-1998; PackageReference: TSOP48; Publisher: Altium Limited; Code_JEDEC: MO-142-DD
footprint TSOP48 (Shrink Small Outline, Plastic, Thin; 48 Leads; Body Width 18.4 mm; Pitch 0.5 mm)
pins: 1 A15 (in), 2 A14 (in), 3 A13 (in), 4 A12 (in), 5 A11 (in), 6 A10 (in), 7 A9 (in), 8 A8 (in), 9 NC, 10 NC, 11 ~{WE} (in), 12 ~{RP} (in), 13 VPP (power), 14 DU, 15 NC, 16 NC, 17 NC, 18 A7 (in), 19 A6 (in), 20 A5 (in), 21 A4 (in), 22 A3 (in), 23 A2 (in), 24 A1 (in), 25 A0 (in), 26 ~{CE} (in), 27 GND (power), 28 ~{OE} (in), 29 DQ0 (io), 30 DQ8 (io), 31 DQ1 (io), 32 DQ9 (io), 33 DQ2 (io), 34 DQ10 (io), 35 DQ3 (io), 36 DQ11 (io), 37 VCC (power), 38 DQ4 (io), 39 DQ12 (io), 40 DQ5 (io), 41 DQ13 (io), 42 DQ6 (io), 43 DQ14 (io), 44 DQ7 (io), 45 DQ15/A-1 (io), 46 GND (power), 47 ~{BYTE} (in), 48 A16 (in)

## M28F220-80YN6
designator U?
2 Mbit (x8 or x16, Block Erase) Flash Memory; Note: Do Not Use pin number 14 (DU).; Published: 24-Aug-2001; LatestRevisionDate: 17-Jul-2002; LatestRevisionNote: Re-released for DXP Platform.; DatasheetDocument: Feb-1996; PackageDocument: Jul-1998; PackageReference: TSOP48; Publisher: Altium Limited; Code_JEDEC: MO-142-DD
footprint TSOP48 (Shrink Small Outline, Plastic, Thin; 48 Leads; Body Width 18.4 mm; Pitch 0.5 mm)
pins: 1 A15 (in), 2 A14 (in), 3 A13 (in), 4 A12 (in), 5 A11 (in), 6 A10 (in), 7 A9 (in), 8 A8 (in), 9 NC, 10 NC, 11 ~{WE} (in), 12 ~{RP} (in), 13 VPP (power), 14 DU, 15 NC, 16 NC, 17 NC, 18 A7 (in), 19 A6 (in), 20 A5 (in), 21 A4 (in), 22 A3 (in), 23 A2 (in), 24 A1 (in), 25 A0 (in), 26 ~{CE} (in), 27 GND (power), 28 ~{OE} (in), 29 DQ0 (io), 30 DQ8 (io), 31 DQ1 (io), 32 DQ9 (io), 33 DQ2 (io), 34 DQ10 (io), 35 DQ3 (io), 36 DQ11 (io), 37 VCC (power), 38 DQ4 (io), 39 DQ12 (io), 40 DQ5 (io), 41 DQ13 (io), 42 DQ6 (io), 43 DQ14 (io), 44 DQ7 (io), 45 DQ15/A-1 (io), 46 GND (power), 47 ~{BYTE} (in), 48 A16 (in)

## M28F220-90M1
designator U?
2 Mbit (x8 or x16, Block Erase) Flash Memory; Note: Do Not Use pin number 2 (DU).; Published: 24-Aug-2001; LatestRevisionDate: 17-Jul-2002; LatestRevisionNote: Re-released for DXP Platform.; DatasheetDocument: Feb-1996; PackageReference: SO44; Publisher: Altium Limited
footprint SO44 (Small Outline, Plastic; 44 Leads; Body Width 13.3 mm; Pitch 1.27 mm)
pins: 1 VPP (power), 2 DU, 3 NC, 4 A7 (in), 5 A6 (in), 6 A5 (in), 7 A4 (in), 8 A3 (in), 9 A2 (in), 10 A1 (in), 11 A0 (in), 12 ~{CE} (in), 13 GND (power), 14 ~{OE} (in), 15 DQ0 (io), 16 DQ8 (io), 17 DQ1 (io), 18 DQ9 (io), 19 DQ2 (io), 20 DQ10 (io), 21 DQ3 (io), 22 DQ11 (io), 23 VCC (power), 24 DQ4 (io), 25 DQ12 (io), 26 DQ5 (io), 27 DQ13 (io), 28 DQ6 (io), 29 DQ14 (io), 30 DQ7 (io), 31 DQ15/A-1 (io), 32 GND (power), 33 ~{BYTE} (in), 34 A16 (in), 35 A15 (in), 36 A14 (in), 37 A13 (in), 38 A12 (in), 39 A11 (in), 40 A10 (in), 41 A9 (in), 42 A8 (in), 43 ~{WE} (in), 44 ~{RP} (in)

## M28F220-90M3
designator U?
2 Mbit (x8 or x16, Block Erase) Flash Memory; Note: Do Not Use pin number 2 (DU).; Published: 24-Aug-2001; LatestRevisionDate: 17-Jul-2002; LatestRevisionNote: Re-released for DXP Platform.; DatasheetDocument: Feb-1996; PackageReference: SO44; Publisher: Altium Limited
footprint SO44 (Small Outline, Plastic; 44 Leads; Body Width 13.3 mm; Pitch 1.27 mm)
pins: 1 VPP (power), 2 DU, 3 NC, 4 A7 (in), 5 A6 (in), 6 A5 (in), 7 A4 (in), 8 A3 (in), 9 A2 (in), 10 A1 (in), 11 A0 (in), 12 ~{CE} (in), 13 GND (power), 14 ~{OE} (in), 15 DQ0 (io), 16 DQ8 (io), 17 DQ1 (io), 18 DQ9 (io), 19 DQ2 (io), 20 DQ10 (io), 21 DQ3 (io), 22 DQ11 (io), 23 VCC (power), 24 DQ4 (io), 25 DQ12 (io), 26 DQ5 (io), 27 DQ13 (io), 28 DQ6 (io), 29 DQ14 (io), 30 DQ7 (io), 31 DQ15/A-1 (io), 32 GND (power), 33 ~{BYTE} (in), 34 A16 (in), 35 A15 (in), 36 A14 (in), 37 A13 (in), 38 A12 (in), 39 A11 (in), 40 A10 (in), 41 A9 (in), 42 A8 (in), 43 ~{WE} (in), 44 ~{RP} (in)

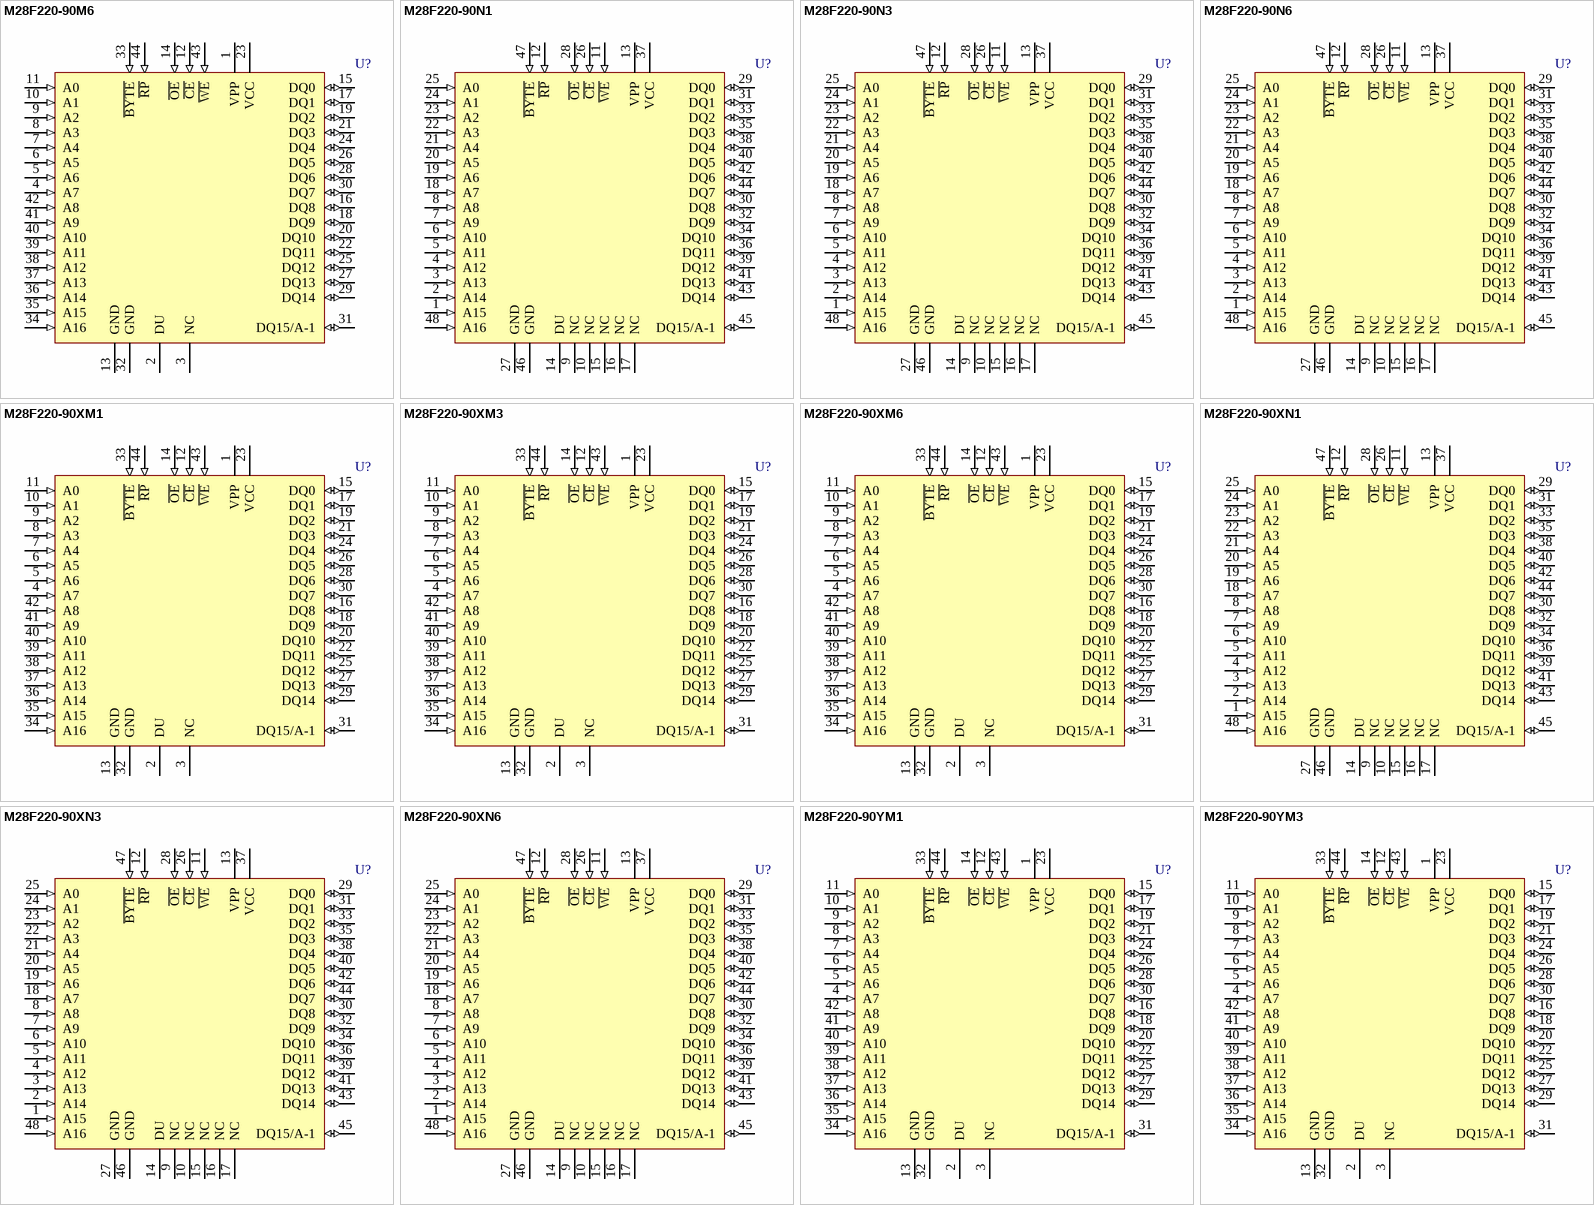
[diagram p25: symbols M28F220-90M6 to M28F220-90YM3]

## M28F220-90M6
designator U?
2 Mbit (x8 or x16, Block Erase) Flash Memory; Note: Do Not Use pin number 2 (DU).; Published: 24-Aug-2001; LatestRevisionDate: 17-Jul-2002; LatestRevisionNote: Re-released for DXP Platform.; DatasheetDocument: Feb-1996; PackageReference: SO44; Publisher: Altium Limited
footprint SO44 (Small Outline, Plastic; 44 Leads; Body Width 13.3 mm; Pitch 1.27 mm)
pins: 1 VPP (power), 2 DU, 3 NC, 4 A7 (in), 5 A6 (in), 6 A5 (in), 7 A4 (in), 8 A3 (in), 9 A2 (in), 10 A1 (in), 11 A0 (in), 12 ~{CE} (in), 13 GND (power), 14 ~{OE} (in), 15 DQ0 (io), 16 DQ8 (io), 17 DQ1 (io), 18 DQ9 (io), 19 DQ2 (io), 20 DQ10 (io), 21 DQ3 (io), 22 DQ11 (io), 23 VCC (power), 24 DQ4 (io), 25 DQ12 (io), 26 DQ5 (io), 27 DQ13 (io), 28 DQ6 (io), 29 DQ14 (io), 30 DQ7 (io), 31 DQ15/A-1 (io), 32 GND (power), 33 ~{BYTE} (in), 34 A16 (in), 35 A15 (in), 36 A14 (in), 37 A13 (in), 38 A12 (in), 39 A11 (in), 40 A10 (in), 41 A9 (in), 42 A8 (in), 43 ~{WE} (in), 44 ~{RP} (in)

## M28F220-90N1
designator U?
2 Mbit (x8 or x16, Block Erase) Flash Memory; Note: Do Not Use pin number 14 (DU).; Published: 24-Aug-2001; LatestRevisionDate: 17-Jul-2002; LatestRevisionNote: Re-released for DXP Platform.; DatasheetDocument: Feb-1996; PackageDocument: Jul-1998; PackageReference: TSOP48; Publisher: Altium Limited; Code_JEDEC: MO-142-DD
footprint TSOP48 (Shrink Small Outline, Plastic, Thin; 48 Leads; Body Width 18.4 mm; Pitch 0.5 mm)
pins: 1 A15 (in), 2 A14 (in), 3 A13 (in), 4 A12 (in), 5 A11 (in), 6 A10 (in), 7 A9 (in), 8 A8 (in), 9 NC, 10 NC, 11 ~{WE} (in), 12 ~{RP} (in), 13 VPP (power), 14 DU, 15 NC, 16 NC, 17 NC, 18 A7 (in), 19 A6 (in), 20 A5 (in), 21 A4 (in), 22 A3 (in), 23 A2 (in), 24 A1 (in), 25 A0 (in), 26 ~{CE} (in), 27 GND (power), 28 ~{OE} (in), 29 DQ0 (io), 30 DQ8 (io), 31 DQ1 (io), 32 DQ9 (io), 33 DQ2 (io), 34 DQ10 (io), 35 DQ3 (io), 36 DQ11 (io), 37 VCC (power), 38 DQ4 (io), 39 DQ12 (io), 40 DQ5 (io), 41 DQ13 (io), 42 DQ6 (io), 43 DQ14 (io), 44 DQ7 (io), 45 DQ15/A-1 (io), 46 GND (power), 47 ~{BYTE} (in), 48 A16 (in)

## M28F220-90N3
designator U?
2 Mbit (x8 or x16, Block Erase) Flash Memory; Note: Do Not Use pin number 14 (DU).; Published: 24-Aug-2001; LatestRevisionDate: 17-Jul-2002; LatestRevisionNote: Re-released for DXP Platform.; DatasheetDocument: Feb-1996; PackageDocument: Jul-1998; PackageReference: TSOP48; Publisher: Altium Limited; Code_JEDEC: MO-142-DD
footprint TSOP48 (Shrink Small Outline, Plastic, Thin; 48 Leads; Body Width 18.4 mm; Pitch 0.5 mm)
pins: 1 A15 (in), 2 A14 (in), 3 A13 (in), 4 A12 (in), 5 A11 (in), 6 A10 (in), 7 A9 (in), 8 A8 (in), 9 NC, 10 NC, 11 ~{WE} (in), 12 ~{RP} (in), 13 VPP (power), 14 DU, 15 NC, 16 NC, 17 NC, 18 A7 (in), 19 A6 (in), 20 A5 (in), 21 A4 (in), 22 A3 (in), 23 A2 (in), 24 A1 (in), 25 A0 (in), 26 ~{CE} (in), 27 GND (power), 28 ~{OE} (in), 29 DQ0 (io), 30 DQ8 (io), 31 DQ1 (io), 32 DQ9 (io), 33 DQ2 (io), 34 DQ10 (io), 35 DQ3 (io), 36 DQ11 (io), 37 VCC (power), 38 DQ4 (io), 39 DQ12 (io), 40 DQ5 (io), 41 DQ13 (io), 42 DQ6 (io), 43 DQ14 (io), 44 DQ7 (io), 45 DQ15/A-1 (io), 46 GND (power), 47 ~{BYTE} (in), 48 A16 (in)

## M28F220-90N6
designator U?
2 Mbit (x8 or x16, Block Erase) Flash Memory; Note: Do Not Use pin number 14 (DU).; Published: 24-Aug-2001; LatestRevisionDate: 17-Jul-2002; LatestRevisionNote: Re-released for DXP Platform.; DatasheetDocument: Feb-1996; PackageDocument: Jul-1998; PackageReference: TSOP48; Publisher: Altium Limited; Code_JEDEC: MO-142-DD
footprint TSOP48 (Shrink Small Outline, Plastic, Thin; 48 Leads; Body Width 18.4 mm; Pitch 0.5 mm)
pins: 1 A15 (in), 2 A14 (in), 3 A13 (in), 4 A12 (in), 5 A11 (in), 6 A10 (in), 7 A9 (in), 8 A8 (in), 9 NC, 10 NC, 11 ~{WE} (in), 12 ~{RP} (in), 13 VPP (power), 14 DU, 15 NC, 16 NC, 17 NC, 18 A7 (in), 19 A6 (in), 20 A5 (in), 21 A4 (in), 22 A3 (in), 23 A2 (in), 24 A1 (in), 25 A0 (in), 26 ~{CE} (in), 27 GND (power), 28 ~{OE} (in), 29 DQ0 (io), 30 DQ8 (io), 31 DQ1 (io), 32 DQ9 (io), 33 DQ2 (io), 34 DQ10 (io), 35 DQ3 (io), 36 DQ11 (io), 37 VCC (power), 38 DQ4 (io), 39 DQ12 (io), 40 DQ5 (io), 41 DQ13 (io), 42 DQ6 (io), 43 DQ14 (io), 44 DQ7 (io), 45 DQ15/A-1 (io), 46 GND (power), 47 ~{BYTE} (in), 48 A16 (in)

## M28F220-90XM1
designator U?
2 Mbit (x8 or x16, Block Erase) Flash Memory; Note: Do Not Use pin number 2 (DU).; Published: 24-Aug-2001; LatestRevisionDate: 17-Jul-2002; LatestRevisionNote: Re-released for DXP Platform.; DatasheetDocument: Feb-1996; PackageReference: SO44; Publisher: Altium Limited
footprint SO44 (Small Outline, Plastic; 44 Leads; Body Width 13.3 mm; Pitch 1.27 mm)
pins: 1 VPP (power), 2 DU, 3 NC, 4 A7 (in), 5 A6 (in), 6 A5 (in), 7 A4 (in), 8 A3 (in), 9 A2 (in), 10 A1 (in), 11 A0 (in), 12 ~{CE} (in), 13 GND (power), 14 ~{OE} (in), 15 DQ0 (io), 16 DQ8 (io), 17 DQ1 (io), 18 DQ9 (io), 19 DQ2 (io), 20 DQ10 (io), 21 DQ3 (io), 22 DQ11 (io), 23 VCC (power), 24 DQ4 (io), 25 DQ12 (io), 26 DQ5 (io), 27 DQ13 (io), 28 DQ6 (io), 29 DQ14 (io), 30 DQ7 (io), 31 DQ15/A-1 (io), 32 GND (power), 33 ~{BYTE} (in), 34 A16 (in), 35 A15 (in), 36 A14 (in), 37 A13 (in), 38 A12 (in), 39 A11 (in), 40 A10 (in), 41 A9 (in), 42 A8 (in), 43 ~{WE} (in), 44 ~{RP} (in)

## M28F220-90XM3
designator U?
2 Mbit (x8 or x16, Block Erase) Flash Memory; Note: Do Not Use pin number 2 (DU).; Published: 24-Aug-2001; LatestRevisionDate: 17-Jul-2002; LatestRevisionNote: Re-released for DXP Platform.; DatasheetDocument: Feb-1996; PackageReference: SO44; Publisher: Altium Limited
footprint SO44 (Small Outline, Plastic; 44 Leads; Body Width 13.3 mm; Pitch 1.27 mm)
pins: 1 VPP (power), 2 DU, 3 NC, 4 A7 (in), 5 A6 (in), 6 A5 (in), 7 A4 (in), 8 A3 (in), 9 A2 (in), 10 A1 (in), 11 A0 (in), 12 ~{CE} (in), 13 GND (power), 14 ~{OE} (in), 15 DQ0 (io), 16 DQ8 (io), 17 DQ1 (io), 18 DQ9 (io), 19 DQ2 (io), 20 DQ10 (io), 21 DQ3 (io), 22 DQ11 (io), 23 VCC (power), 24 DQ4 (io), 25 DQ12 (io), 26 DQ5 (io), 27 DQ13 (io), 28 DQ6 (io), 29 DQ14 (io), 30 DQ7 (io), 31 DQ15/A-1 (io), 32 GND (power), 33 ~{BYTE} (in), 34 A16 (in), 35 A15 (in), 36 A14 (in), 37 A13 (in), 38 A12 (in), 39 A11 (in), 40 A10 (in), 41 A9 (in), 42 A8 (in), 43 ~{WE} (in), 44 ~{RP} (in)

## M28F220-90XM6
designator U?
2 Mbit (x8 or x16, Block Erase) Flash Memory; Note: Do Not Use pin number 2 (DU).; Published: 24-Aug-2001; LatestRevisionDate: 17-Jul-2002; LatestRevisionNote: Re-released for DXP Platform.; DatasheetDocument: Feb-1996; PackageReference: SO44; Publisher: Altium Limited
footprint SO44 (Small Outline, Plastic; 44 Leads; Body Width 13.3 mm; Pitch 1.27 mm)
pins: 1 VPP (power), 2 DU, 3 NC, 4 A7 (in), 5 A6 (in), 6 A5 (in), 7 A4 (in), 8 A3 (in), 9 A2 (in), 10 A1 (in), 11 A0 (in), 12 ~{CE} (in), 13 GND (power), 14 ~{OE} (in), 15 DQ0 (io), 16 DQ8 (io), 17 DQ1 (io), 18 DQ9 (io), 19 DQ2 (io), 20 DQ10 (io), 21 DQ3 (io), 22 DQ11 (io), 23 VCC (power), 24 DQ4 (io), 25 DQ12 (io), 26 DQ5 (io), 27 DQ13 (io), 28 DQ6 (io), 29 DQ14 (io), 30 DQ7 (io), 31 DQ15/A-1 (io), 32 GND (power), 33 ~{BYTE} (in), 34 A16 (in), 35 A15 (in), 36 A14 (in), 37 A13 (in), 38 A12 (in), 39 A11 (in), 40 A10 (in), 41 A9 (in), 42 A8 (in), 43 ~{WE} (in), 44 ~{RP} (in)

## M28F220-90XN1
designator U?
2 Mbit (x8 or x16, Block Erase) Flash Memory; Note: Do Not Use pin number 14 (DU).; Published: 24-Aug-2001; LatestRevisionDate: 17-Jul-2002; LatestRevisionNote: Re-released for DXP Platform.; DatasheetDocument: Feb-1996; PackageDocument: Jul-1998; PackageReference: TSOP48; Publisher: Altium Limited; Code_JEDEC: MO-142-DD
footprint TSOP48 (Shrink Small Outline, Plastic, Thin; 48 Leads; Body Width 18.4 mm; Pitch 0.5 mm)
pins: 1 A15 (in), 2 A14 (in), 3 A13 (in), 4 A12 (in), 5 A11 (in), 6 A10 (in), 7 A9 (in), 8 A8 (in), 9 NC, 10 NC, 11 ~{WE} (in), 12 ~{RP} (in), 13 VPP (power), 14 DU, 15 NC, 16 NC, 17 NC, 18 A7 (in), 19 A6 (in), 20 A5 (in), 21 A4 (in), 22 A3 (in), 23 A2 (in), 24 A1 (in), 25 A0 (in), 26 ~{CE} (in), 27 GND (power), 28 ~{OE} (in), 29 DQ0 (io), 30 DQ8 (io), 31 DQ1 (io), 32 DQ9 (io), 33 DQ2 (io), 34 DQ10 (io), 35 DQ3 (io), 36 DQ11 (io), 37 VCC (power), 38 DQ4 (io), 39 DQ12 (io), 40 DQ5 (io), 41 DQ13 (io), 42 DQ6 (io), 43 DQ14 (io), 44 DQ7 (io), 45 DQ15/A-1 (io), 46 GND (power), 47 ~{BYTE} (in), 48 A16 (in)

## M28F220-90XN3
designator U?
2 Mbit (x8 or x16, Block Erase) Flash Memory; Note: Do Not Use pin number 14 (DU).; Published: 24-Aug-2001; LatestRevisionDate: 17-Jul-2002; LatestRevisionNote: Re-released for DXP Platform.; DatasheetDocument: Feb-1996; PackageDocument: Jul-1998; PackageReference: TSOP48; Publisher: Altium Limited; Code_JEDEC: MO-142-DD
footprint TSOP48 (Shrink Small Outline, Plastic, Thin; 48 Leads; Body Width 18.4 mm; Pitch 0.5 mm)
pins: 1 A15 (in), 2 A14 (in), 3 A13 (in), 4 A12 (in), 5 A11 (in), 6 A10 (in), 7 A9 (in), 8 A8 (in), 9 NC, 10 NC, 11 ~{WE} (in), 12 ~{RP} (in), 13 VPP (power), 14 DU, 15 NC, 16 NC, 17 NC, 18 A7 (in), 19 A6 (in), 20 A5 (in), 21 A4 (in), 22 A3 (in), 23 A2 (in), 24 A1 (in), 25 A0 (in), 26 ~{CE} (in), 27 GND (power), 28 ~{OE} (in), 29 DQ0 (io), 30 DQ8 (io), 31 DQ1 (io), 32 DQ9 (io), 33 DQ2 (io), 34 DQ10 (io), 35 DQ3 (io), 36 DQ11 (io), 37 VCC (power), 38 DQ4 (io), 39 DQ12 (io), 40 DQ5 (io), 41 DQ13 (io), 42 DQ6 (io), 43 DQ14 (io), 44 DQ7 (io), 45 DQ15/A-1 (io), 46 GND (power), 47 ~{BYTE} (in), 48 A16 (in)

## M28F220-90XN6
designator U?
2 Mbit (x8 or x16, Block Erase) Flash Memory; Note: Do Not Use pin number 14 (DU).; Published: 24-Aug-2001; LatestRevisionDate: 17-Jul-2002; LatestRevisionNote: Re-released for DXP Platform.; DatasheetDocument: Feb-1996; PackageDocument: Jul-1998; PackageReference: TSOP48; Publisher: Altium Limited; Code_JEDEC: MO-142-DD
footprint TSOP48 (Shrink Small Outline, Plastic, Thin; 48 Leads; Body Width 18.4 mm; Pitch 0.5 mm)
pins: 1 A15 (in), 2 A14 (in), 3 A13 (in), 4 A12 (in), 5 A11 (in), 6 A10 (in), 7 A9 (in), 8 A8 (in), 9 NC, 10 NC, 11 ~{WE} (in), 12 ~{RP} (in), 13 VPP (power), 14 DU, 15 NC, 16 NC, 17 NC, 18 A7 (in), 19 A6 (in), 20 A5 (in), 21 A4 (in), 22 A3 (in), 23 A2 (in), 24 A1 (in), 25 A0 (in), 26 ~{CE} (in), 27 GND (power), 28 ~{OE} (in), 29 DQ0 (io), 30 DQ8 (io), 31 DQ1 (io), 32 DQ9 (io), 33 DQ2 (io), 34 DQ10 (io), 35 DQ3 (io), 36 DQ11 (io), 37 VCC (power), 38 DQ4 (io), 39 DQ12 (io), 40 DQ5 (io), 41 DQ13 (io), 42 DQ6 (io), 43 DQ14 (io), 44 DQ7 (io), 45 DQ15/A-1 (io), 46 GND (power), 47 ~{BYTE} (in), 48 A16 (in)

## M28F220-90YM1
designator U?
2 Mbit (x8 or x16, Block Erase) Flash Memory; Note: Do Not Use pin number 2 (DU).; Published: 24-Aug-2001; LatestRevisionDate: 17-Jul-2002; LatestRevisionNote: Re-released for DXP Platform.; DatasheetDocument: Feb-1996; PackageReference: SO44; Publisher: Altium Limited
footprint SO44 (Small Outline, Plastic; 44 Leads; Body Width 13.3 mm; Pitch 1.27 mm)
pins: 1 VPP (power), 2 DU, 3 NC, 4 A7 (in), 5 A6 (in), 6 A5 (in), 7 A4 (in), 8 A3 (in), 9 A2 (in), 10 A1 (in), 11 A0 (in), 12 ~{CE} (in), 13 GND (power), 14 ~{OE} (in), 15 DQ0 (io), 16 DQ8 (io), 17 DQ1 (io), 18 DQ9 (io), 19 DQ2 (io), 20 DQ10 (io), 21 DQ3 (io), 22 DQ11 (io), 23 VCC (power), 24 DQ4 (io), 25 DQ12 (io), 26 DQ5 (io), 27 DQ13 (io), 28 DQ6 (io), 29 DQ14 (io), 30 DQ7 (io), 31 DQ15/A-1 (io), 32 GND (power), 33 ~{BYTE} (in), 34 A16 (in), 35 A15 (in), 36 A14 (in), 37 A13 (in), 38 A12 (in), 39 A11 (in), 40 A10 (in), 41 A9 (in), 42 A8 (in), 43 ~{WE} (in), 44 ~{RP} (in)

## M28F220-90YM3
designator U?
2 Mbit (x8 or x16, Block Erase) Flash Memory; Note: Do Not Use pin number 2 (DU).; Published: 24-Aug-2001; LatestRevisionDate: 17-Jul-2002; LatestRevisionNote: Re-released for DXP Platform.; DatasheetDocument: Feb-1996; PackageReference: SO44; Publisher: Altium Limited
footprint SO44 (Small Outline, Plastic; 44 Leads; Body Width 13.3 mm; Pitch 1.27 mm)
pins: 1 VPP (power), 2 DU, 3 NC, 4 A7 (in), 5 A6 (in), 6 A5 (in), 7 A4 (in), 8 A3 (in), 9 A2 (in), 10 A1 (in), 11 A0 (in), 12 ~{CE} (in), 13 GND (power), 14 ~{OE} (in), 15 DQ0 (io), 16 DQ8 (io), 17 DQ1 (io), 18 DQ9 (io), 19 DQ2 (io), 20 DQ10 (io), 21 DQ3 (io), 22 DQ11 (io), 23 VCC (power), 24 DQ4 (io), 25 DQ12 (io), 26 DQ5 (io), 27 DQ13 (io), 28 DQ6 (io), 29 DQ14 (io), 30 DQ7 (io), 31 DQ15/A-1 (io), 32 GND (power), 33 ~{BYTE} (in), 34 A16 (in), 35 A15 (in), 36 A14 (in), 37 A13 (in), 38 A12 (in), 39 A11 (in), 40 A10 (in), 41 A9 (in), 42 A8 (in), 43 ~{WE} (in), 44 ~{RP} (in)

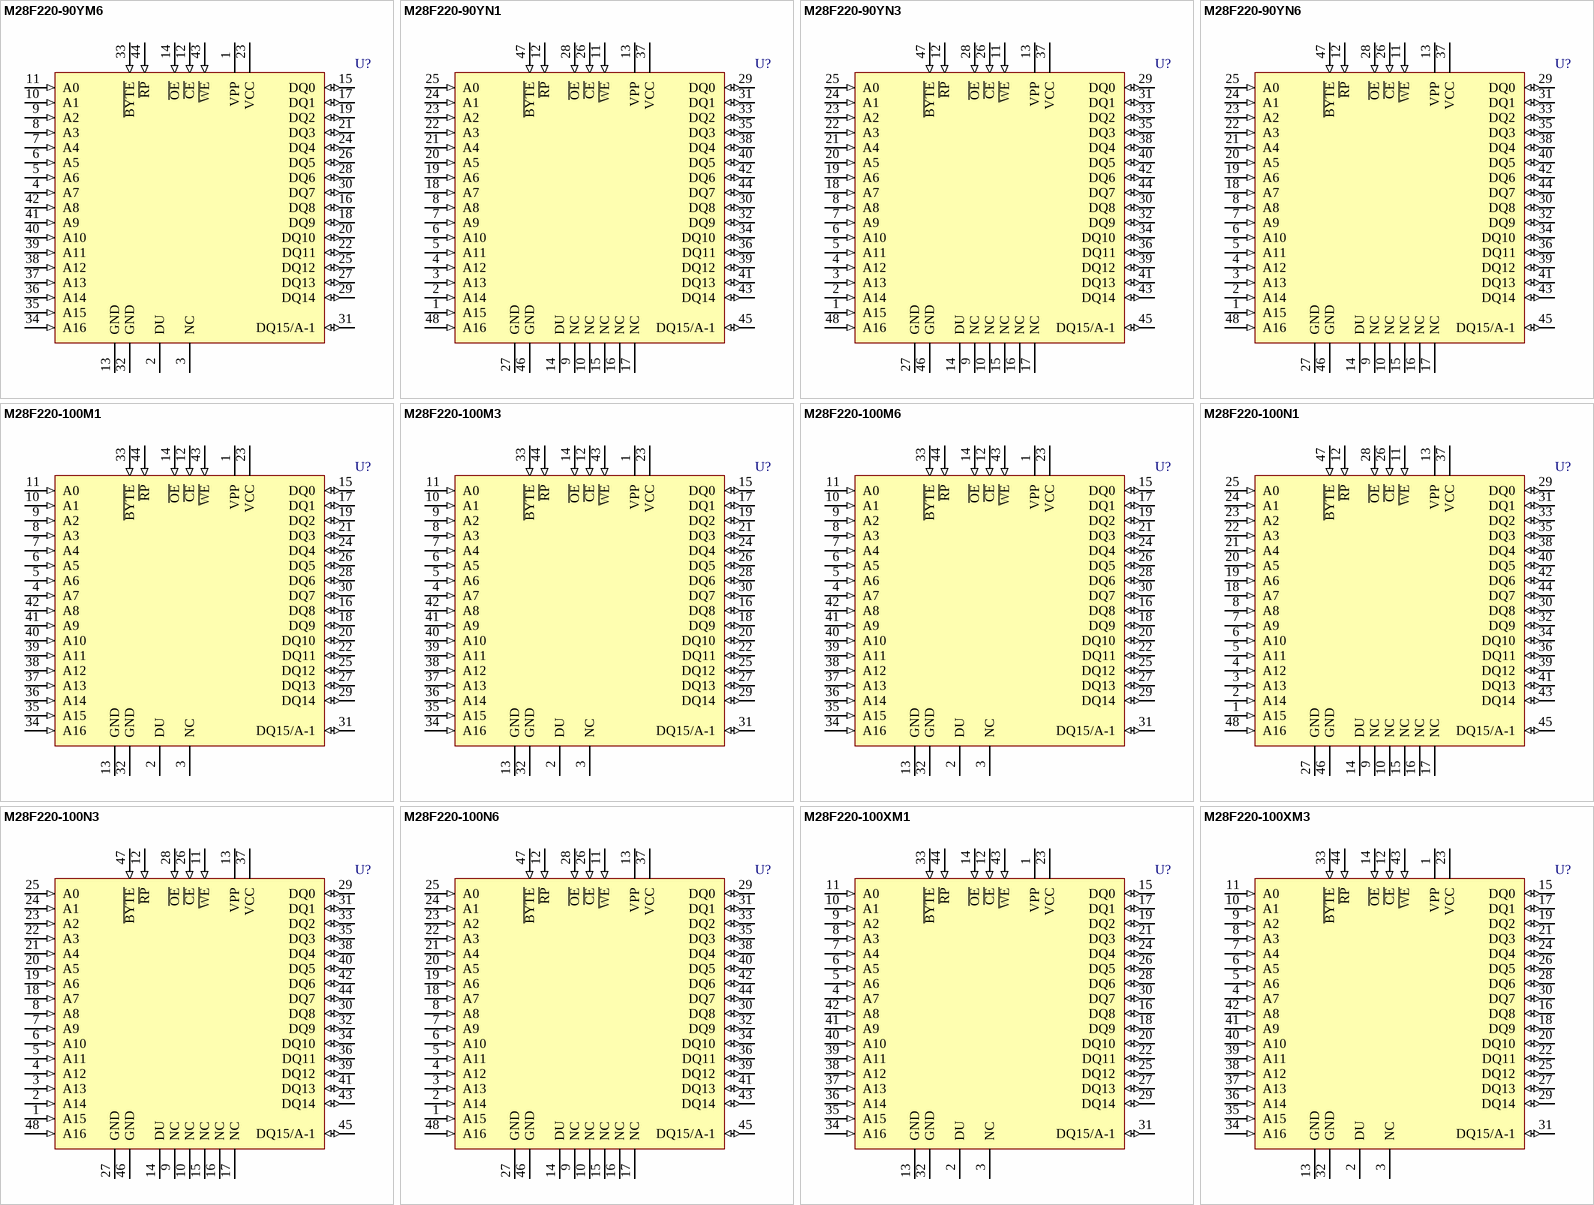
[diagram p26: symbols M28F220-90YM6 to M28F220-100XM3]

## M28F220-90YM6
designator U?
2 Mbit (x8 or x16, Block Erase) Flash Memory; Note: Do Not Use pin number 2 (DU).; Published: 24-Aug-2001; LatestRevisionDate: 17-Jul-2002; LatestRevisionNote: Re-released for DXP Platform.; DatasheetDocument: Feb-1996; PackageReference: SO44; Publisher: Altium Limited
footprint SO44 (Small Outline, Plastic; 44 Leads; Body Width 13.3 mm; Pitch 1.27 mm)
pins: 1 VPP (power), 2 DU, 3 NC, 4 A7 (in), 5 A6 (in), 6 A5 (in), 7 A4 (in), 8 A3 (in), 9 A2 (in), 10 A1 (in), 11 A0 (in), 12 ~{CE} (in), 13 GND (power), 14 ~{OE} (in), 15 DQ0 (io), 16 DQ8 (io), 17 DQ1 (io), 18 DQ9 (io), 19 DQ2 (io), 20 DQ10 (io), 21 DQ3 (io), 22 DQ11 (io), 23 VCC (power), 24 DQ4 (io), 25 DQ12 (io), 26 DQ5 (io), 27 DQ13 (io), 28 DQ6 (io), 29 DQ14 (io), 30 DQ7 (io), 31 DQ15/A-1 (io), 32 GND (power), 33 ~{BYTE} (in), 34 A16 (in), 35 A15 (in), 36 A14 (in), 37 A13 (in), 38 A12 (in), 39 A11 (in), 40 A10 (in), 41 A9 (in), 42 A8 (in), 43 ~{WE} (in), 44 ~{RP} (in)

## M28F220-90YN1
designator U?
2 Mbit (x8 or x16, Block Erase) Flash Memory; Note: Do Not Use pin number 14 (DU).; Published: 24-Aug-2001; LatestRevisionDate: 17-Jul-2002; LatestRevisionNote: Re-released for DXP Platform.; DatasheetDocument: Feb-1996; PackageDocument: Jul-1998; PackageReference: TSOP48; Publisher: Altium Limited; Code_JEDEC: MO-142-DD
footprint TSOP48 (Shrink Small Outline, Plastic, Thin; 48 Leads; Body Width 18.4 mm; Pitch 0.5 mm)
pins: 1 A15 (in), 2 A14 (in), 3 A13 (in), 4 A12 (in), 5 A11 (in), 6 A10 (in), 7 A9 (in), 8 A8 (in), 9 NC, 10 NC, 11 ~{WE} (in), 12 ~{RP} (in), 13 VPP (power), 14 DU, 15 NC, 16 NC, 17 NC, 18 A7 (in), 19 A6 (in), 20 A5 (in), 21 A4 (in), 22 A3 (in), 23 A2 (in), 24 A1 (in), 25 A0 (in), 26 ~{CE} (in), 27 GND (power), 28 ~{OE} (in), 29 DQ0 (io), 30 DQ8 (io), 31 DQ1 (io), 32 DQ9 (io), 33 DQ2 (io), 34 DQ10 (io), 35 DQ3 (io), 36 DQ11 (io), 37 VCC (power), 38 DQ4 (io), 39 DQ12 (io), 40 DQ5 (io), 41 DQ13 (io), 42 DQ6 (io), 43 DQ14 (io), 44 DQ7 (io), 45 DQ15/A-1 (io), 46 GND (power), 47 ~{BYTE} (in), 48 A16 (in)

## M28F220-90YN3
designator U?
2 Mbit (x8 or x16, Block Erase) Flash Memory; Note: Do Not Use pin number 14 (DU).; Published: 24-Aug-2001; LatestRevisionDate: 17-Jul-2002; LatestRevisionNote: Re-released for DXP Platform.; DatasheetDocument: Feb-1996; PackageDocument: Jul-1998; PackageReference: TSOP48; Publisher: Altium Limited; Code_JEDEC: MO-142-DD
footprint TSOP48 (Shrink Small Outline, Plastic, Thin; 48 Leads; Body Width 18.4 mm; Pitch 0.5 mm)
pins: 1 A15 (in), 2 A14 (in), 3 A13 (in), 4 A12 (in), 5 A11 (in), 6 A10 (in), 7 A9 (in), 8 A8 (in), 9 NC, 10 NC, 11 ~{WE} (in), 12 ~{RP} (in), 13 VPP (power), 14 DU, 15 NC, 16 NC, 17 NC, 18 A7 (in), 19 A6 (in), 20 A5 (in), 21 A4 (in), 22 A3 (in), 23 A2 (in), 24 A1 (in), 25 A0 (in), 26 ~{CE} (in), 27 GND (power), 28 ~{OE} (in), 29 DQ0 (io), 30 DQ8 (io), 31 DQ1 (io), 32 DQ9 (io), 33 DQ2 (io), 34 DQ10 (io), 35 DQ3 (io), 36 DQ11 (io), 37 VCC (power), 38 DQ4 (io), 39 DQ12 (io), 40 DQ5 (io), 41 DQ13 (io), 42 DQ6 (io), 43 DQ14 (io), 44 DQ7 (io), 45 DQ15/A-1 (io), 46 GND (power), 47 ~{BYTE} (in), 48 A16 (in)

## M28F220-90YN6
designator U?
2 Mbit (x8 or x16, Block Erase) Flash Memory; Note: Do Not Use pin number 14 (DU).; Published: 24-Aug-2001; LatestRevisionDate: 17-Jul-2002; LatestRevisionNote: Re-released for DXP Platform.; DatasheetDocument: Feb-1996; PackageDocument: Jul-1998; PackageReference: TSOP48; Publisher: Altium Limited; Code_JEDEC: MO-142-DD
footprint TSOP48 (Shrink Small Outline, Plastic, Thin; 48 Leads; Body Width 18.4 mm; Pitch 0.5 mm)
pins: 1 A15 (in), 2 A14 (in), 3 A13 (in), 4 A12 (in), 5 A11 (in), 6 A10 (in), 7 A9 (in), 8 A8 (in), 9 NC, 10 NC, 11 ~{WE} (in), 12 ~{RP} (in), 13 VPP (power), 14 DU, 15 NC, 16 NC, 17 NC, 18 A7 (in), 19 A6 (in), 20 A5 (in), 21 A4 (in), 22 A3 (in), 23 A2 (in), 24 A1 (in), 25 A0 (in), 26 ~{CE} (in), 27 GND (power), 28 ~{OE} (in), 29 DQ0 (io), 30 DQ8 (io), 31 DQ1 (io), 32 DQ9 (io), 33 DQ2 (io), 34 DQ10 (io), 35 DQ3 (io), 36 DQ11 (io), 37 VCC (power), 38 DQ4 (io), 39 DQ12 (io), 40 DQ5 (io), 41 DQ13 (io), 42 DQ6 (io), 43 DQ14 (io), 44 DQ7 (io), 45 DQ15/A-1 (io), 46 GND (power), 47 ~{BYTE} (in), 48 A16 (in)

## M28F220-100M1
designator U?
2 Mbit (x8 or x16, Block Erase) Flash Memory; Note: Do Not Use pin number 2 (DU).; Published: 24-Aug-2001; LatestRevisionDate: 17-Jul-2002; LatestRevisionNote: Re-released for DXP Platform.; DatasheetDocument: Feb-1996; PackageReference: SO44; Publisher: Altium Limited
footprint SO44 (Small Outline, Plastic; 44 Leads; Body Width 13.3 mm; Pitch 1.27 mm)
pins: 1 VPP (power), 2 DU, 3 NC, 4 A7 (in), 5 A6 (in), 6 A5 (in), 7 A4 (in), 8 A3 (in), 9 A2 (in), 10 A1 (in), 11 A0 (in), 12 ~{CE} (in), 13 GND (power), 14 ~{OE} (in), 15 DQ0 (io), 16 DQ8 (io), 17 DQ1 (io), 18 DQ9 (io), 19 DQ2 (io), 20 DQ10 (io), 21 DQ3 (io), 22 DQ11 (io), 23 VCC (power), 24 DQ4 (io), 25 DQ12 (io), 26 DQ5 (io), 27 DQ13 (io), 28 DQ6 (io), 29 DQ14 (io), 30 DQ7 (io), 31 DQ15/A-1 (io), 32 GND (power), 33 ~{BYTE} (in), 34 A16 (in), 35 A15 (in), 36 A14 (in), 37 A13 (in), 38 A12 (in), 39 A11 (in), 40 A10 (in), 41 A9 (in), 42 A8 (in), 43 ~{WE} (in), 44 ~{RP} (in)

## M28F220-100M3
designator U?
2 Mbit (x8 or x16, Block Erase) Flash Memory; Note: Do Not Use pin number 2 (DU).; Published: 24-Aug-2001; LatestRevisionDate: 17-Jul-2002; LatestRevisionNote: Re-released for DXP Platform.; DatasheetDocument: Feb-1996; PackageReference: SO44; Publisher: Altium Limited
footprint SO44 (Small Outline, Plastic; 44 Leads; Body Width 13.3 mm; Pitch 1.27 mm)
pins: 1 VPP (power), 2 DU, 3 NC, 4 A7 (in), 5 A6 (in), 6 A5 (in), 7 A4 (in), 8 A3 (in), 9 A2 (in), 10 A1 (in), 11 A0 (in), 12 ~{CE} (in), 13 GND (power), 14 ~{OE} (in), 15 DQ0 (io), 16 DQ8 (io), 17 DQ1 (io), 18 DQ9 (io), 19 DQ2 (io), 20 DQ10 (io), 21 DQ3 (io), 22 DQ11 (io), 23 VCC (power), 24 DQ4 (io), 25 DQ12 (io), 26 DQ5 (io), 27 DQ13 (io), 28 DQ6 (io), 29 DQ14 (io), 30 DQ7 (io), 31 DQ15/A-1 (io), 32 GND (power), 33 ~{BYTE} (in), 34 A16 (in), 35 A15 (in), 36 A14 (in), 37 A13 (in), 38 A12 (in), 39 A11 (in), 40 A10 (in), 41 A9 (in), 42 A8 (in), 43 ~{WE} (in), 44 ~{RP} (in)

## M28F220-100M6
designator U?
2 Mbit (x8 or x16, Block Erase) Flash Memory; Note: Do Not Use pin number 2 (DU).; Published: 24-Aug-2001; LatestRevisionDate: 17-Jul-2002; LatestRevisionNote: Re-released for DXP Platform.; DatasheetDocument: Feb-1996; PackageReference: SO44; Publisher: Altium Limited
footprint SO44 (Small Outline, Plastic; 44 Leads; Body Width 13.3 mm; Pitch 1.27 mm)
pins: 1 VPP (power), 2 DU, 3 NC, 4 A7 (in), 5 A6 (in), 6 A5 (in), 7 A4 (in), 8 A3 (in), 9 A2 (in), 10 A1 (in), 11 A0 (in), 12 ~{CE} (in), 13 GND (power), 14 ~{OE} (in), 15 DQ0 (io), 16 DQ8 (io), 17 DQ1 (io), 18 DQ9 (io), 19 DQ2 (io), 20 DQ10 (io), 21 DQ3 (io), 22 DQ11 (io), 23 VCC (power), 24 DQ4 (io), 25 DQ12 (io), 26 DQ5 (io), 27 DQ13 (io), 28 DQ6 (io), 29 DQ14 (io), 30 DQ7 (io), 31 DQ15/A-1 (io), 32 GND (power), 33 ~{BYTE} (in), 34 A16 (in), 35 A15 (in), 36 A14 (in), 37 A13 (in), 38 A12 (in), 39 A11 (in), 40 A10 (in), 41 A9 (in), 42 A8 (in), 43 ~{WE} (in), 44 ~{RP} (in)

## M28F220-100N1
designator U?
2 Mbit (x8 or x16, Block Erase) Flash Memory; Note: Do Not Use pin number 14 (DU).; Published: 24-Aug-2001; LatestRevisionDate: 17-Jul-2002; LatestRevisionNote: Re-released for DXP Platform.; DatasheetDocument: Feb-1996; PackageDocument: Jul-1998; PackageReference: TSOP48; Publisher: Altium Limited; Code_JEDEC: MO-142-DD
footprint TSOP48 (Shrink Small Outline, Plastic, Thin; 48 Leads; Body Width 18.4 mm; Pitch 0.5 mm)
pins: 1 A15 (in), 2 A14 (in), 3 A13 (in), 4 A12 (in), 5 A11 (in), 6 A10 (in), 7 A9 (in), 8 A8 (in), 9 NC, 10 NC, 11 ~{WE} (in), 12 ~{RP} (in), 13 VPP (power), 14 DU, 15 NC, 16 NC, 17 NC, 18 A7 (in), 19 A6 (in), 20 A5 (in), 21 A4 (in), 22 A3 (in), 23 A2 (in), 24 A1 (in), 25 A0 (in), 26 ~{CE} (in), 27 GND (power), 28 ~{OE} (in), 29 DQ0 (io), 30 DQ8 (io), 31 DQ1 (io), 32 DQ9 (io), 33 DQ2 (io), 34 DQ10 (io), 35 DQ3 (io), 36 DQ11 (io), 37 VCC (power), 38 DQ4 (io), 39 DQ12 (io), 40 DQ5 (io), 41 DQ13 (io), 42 DQ6 (io), 43 DQ14 (io), 44 DQ7 (io), 45 DQ15/A-1 (io), 46 GND (power), 47 ~{BYTE} (in), 48 A16 (in)